# Altium integrated library Actel SX.IntLib: 224 symbols (part 2 of 17)
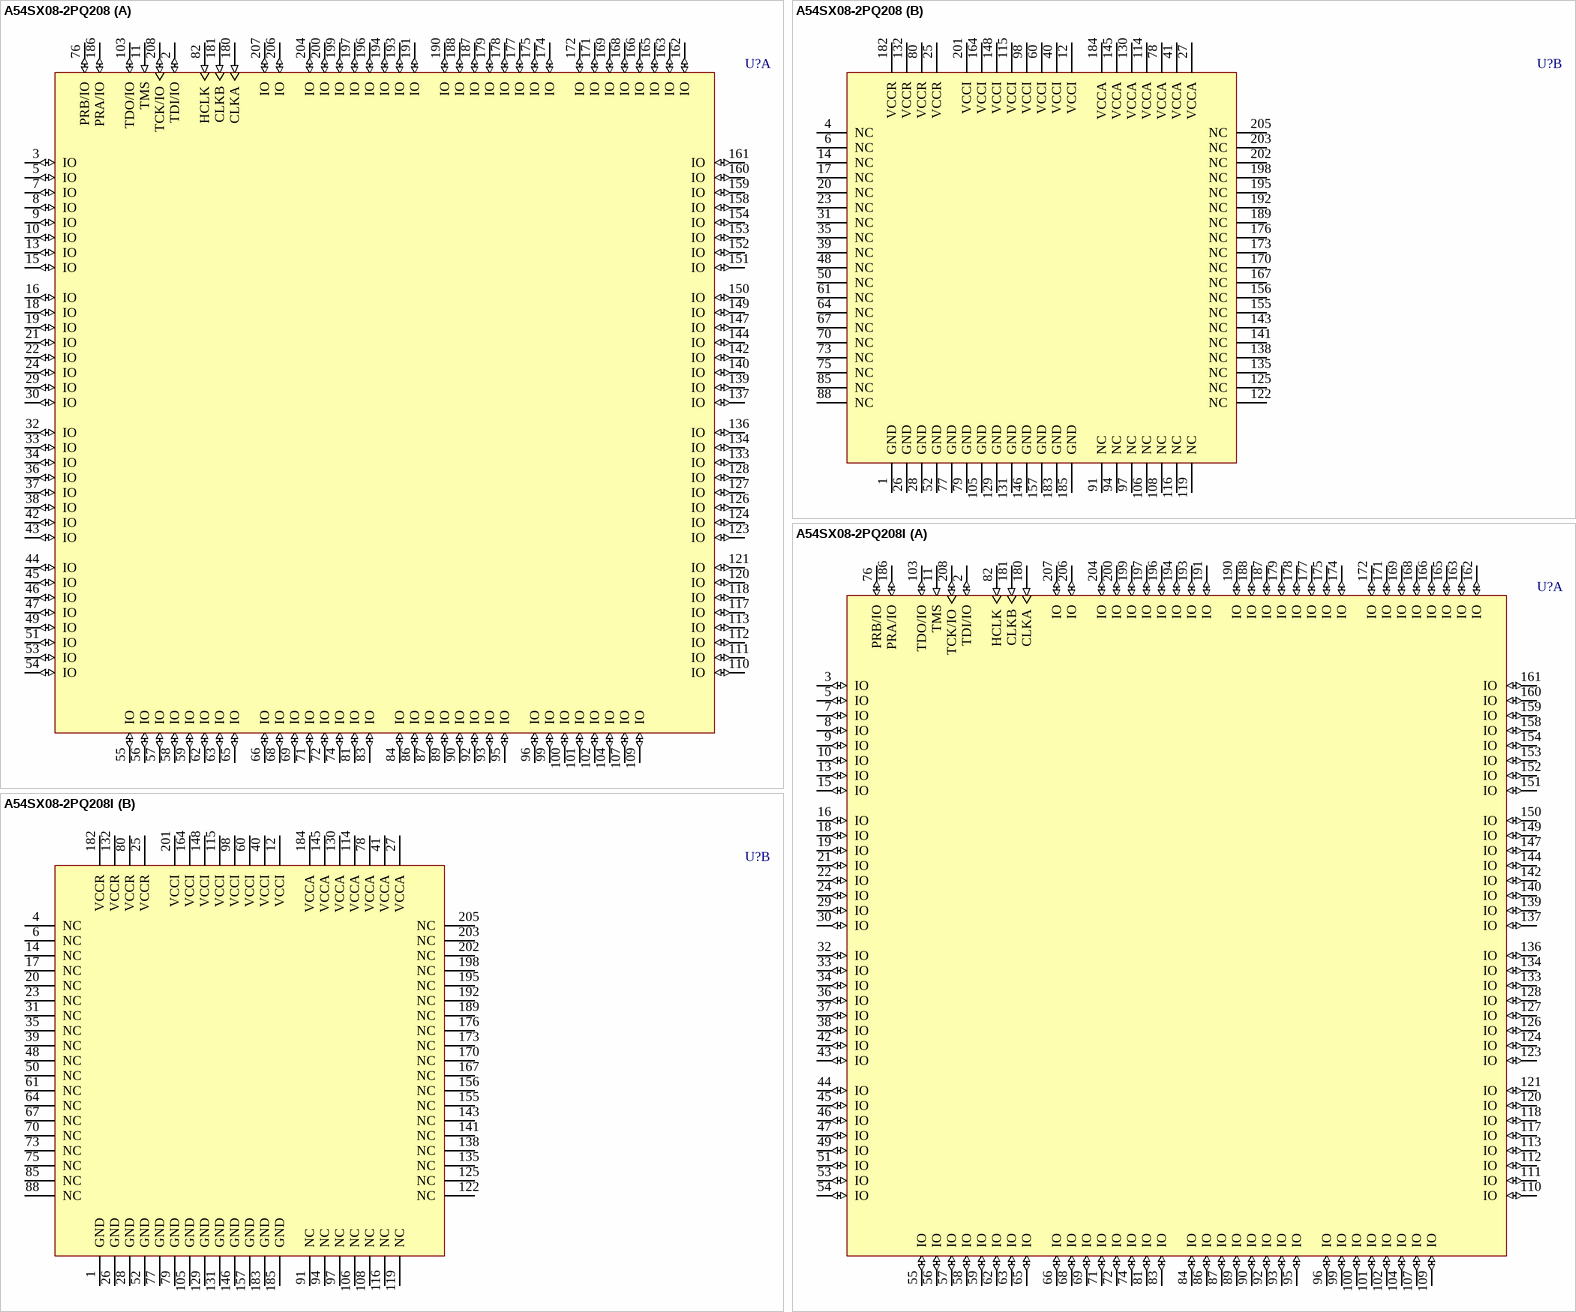
[diagram p168: symbols A54SX08-2PQ208 to A54SX08-2PQ208I]

## A54SX08-2PQ208I
designator U?
54SX08 FPGA, 130 User IOs, 208-Pin PQFP, Speed Grade 2, Industrial Grade; Note: Unused I/O Pins are automatically tristated by the Designer Series software.; Published: 21-May-2003; LatestRevisionDate: 13-Apr-2006; LatestRevisionNote: IPC-7351 Footprint Added.; DatasheetVersion: ver3.1, Jun-2003; PackageVersion: v9.2, Apr-2006; PackageReference: PQ208; Publisher: Altium Limited; PackageDescription: 208-Pin Plastic Quad Flat Pack (PQ208); Code_JEDEC: MS-029-FA-1; ComponentLink1Description: Manufacturer Link; ComponentLink1URL: http://www.actel.com/products/sxa/index.html; ComponentLink2Description: Datasheet; ComponentLink2URL: http://www.actel.com/documents/A54SXDS.pdf
footprint PQ208_N (Shrink QFP, 208-Leads, Body 28x28mm, Pitch 0.5mm, IPC Medium Density)
footprint PQ208_L (Shrink QFP, 208-Leads, Body 28x28mm, Pitch 0.5mm, IPC High Density)
footprint PQ208_M (Shrink QFP, 208-Leads, Body 28x28mm, Pitch 0.5mm, IPC Low Density)
3D model A54SX08-PQ208 (208-Pin Plastic Quad Flat Pack (PQ208))
part A pins: 2 TDI/IO (io), 3 IO (io), 5 IO (io), 7 IO (io), 8 IO (io), 9 IO (io), 10 IO (io), 11 TMS (in), 13 IO (io), 15 IO (io), 16 IO (io), 18 IO (io), 19 IO (io), 21 IO (io), 22 IO (io), 24 IO (io), 29 IO (io), 30 IO (io), 32 IO (io), 33 IO (io), 34 IO (io), 36 IO (io), 37 IO (io), 38 IO (io), 42 IO (io), 43 IO (io), 44 IO (io), 45 IO (io), 46 IO (io), 47 IO (io), 49 IO (io), 51 IO (io), 53 IO (io), 54 IO (io), 55 IO (io), 56 IO (io), 57 IO (io), 58 IO (io), 59 IO (io), 62 IO (io), 63 IO (io), 65 IO (io), 66 IO (io), 68 IO (io), 69 IO (io), 71 IO (io), 72 IO (io), 74 IO (io), 76 PRB/IO (io), 81 IO (io), 82 HCLK (in), 83 IO (io), 84 IO (io), 86 IO (io), 87 IO (io), 89 IO (io), 90 IO (io), 92 IO (io), 93 IO (io), 95 IO (io), 96 IO (io), 99 IO (io), 100 IO (io), 101 IO (io), 102 IO (io), 103 TDO/IO (io), 104 IO (io), 107 IO (io), 109 IO (io), 110 IO (io), 111 IO (io), 112 IO (io), 113 IO (io), 117 IO (io), 118 IO (io), 120 IO (io), 121 IO (io), 123 IO (io), 124 IO (io), 126 IO (io), 127 IO (io), 128 IO (io), 133 IO (io), 134 IO (io), 136 IO (io), 137 IO (io), 139 IO (io), 140 IO (io), 142 IO (io), 144 IO (io), 147 IO (io), 149 IO (io), 150 IO (io), 151 IO (io), 152 IO (io), 153 IO (io), 154 IO (io), 158 IO (io), 159 IO (io), 160 IO (io), 161 IO (io), 162 IO (io), 163 IO (io), 165 IO (io), 166 IO (io), 168 IO (io), 169 IO (io), 171 IO (io), 172 IO (io), 174 IO (io), 175 IO (io), 177 IO (io), 178 IO (io), 179 IO (io), 180 CLKA (in), 181 CLKB (in), 186 PRA/IO (io), 187 IO (io), 188 IO (io), 190 IO (io), 191 IO (io), 193 IO (io), 194 IO (io), 196 IO (io), 197 IO (io), 199 IO (io), 200 IO (io), 204 IO (io), 206 IO (io), 207 IO (io), 208 TCK/IO (io)
part B pins: 1 GND (power), 4 NC, 6 NC, 12 VCCI (power), 14 NC, 17 NC, 20 NC, 23 NC, 25 VCCR (power), 26 GND (power), 27 VCCA (power), 28 GND (power), 31 NC, 35 NC, 39 NC, 40 VCCI (power), 41 VCCA (power), 48 NC, 50 NC, 52 GND (power), 60 VCCI (power), 61 NC, 64 NC, 67 NC, 70 NC, 73 NC, 75 NC, 77 GND (power), 78 VCCA (power), 79 GND (power), 80 VCCR (power), 85 NC, 88 NC, 91 NC, 94 NC, 97 NC, 98 VCCI (power), 105 GND (power), 106 NC, 108 NC, 114 VCCA (power), 115 VCCI (power), 116 NC, 119 NC, 122 NC, 125 NC, 129 GND (power), 130 VCCA (power), 131 GND (power), 132 VCCR (power), 135 NC, 138 NC, 141 NC, 143 NC, 145 VCCA (power), 146 GND (power), 148 VCCI (power), 155 NC, 156 NC, 157 GND (power), 164 VCCI (power), 167 NC, 170 NC, 173 NC, 176 NC, 182 VCCR (power), 183 GND (power), 184 VCCA (power), 185 GND (power), 189 NC, 192 NC, 195 NC, 198 NC, 201 VCCI (power), 202 NC, 203 NC, 205 NC

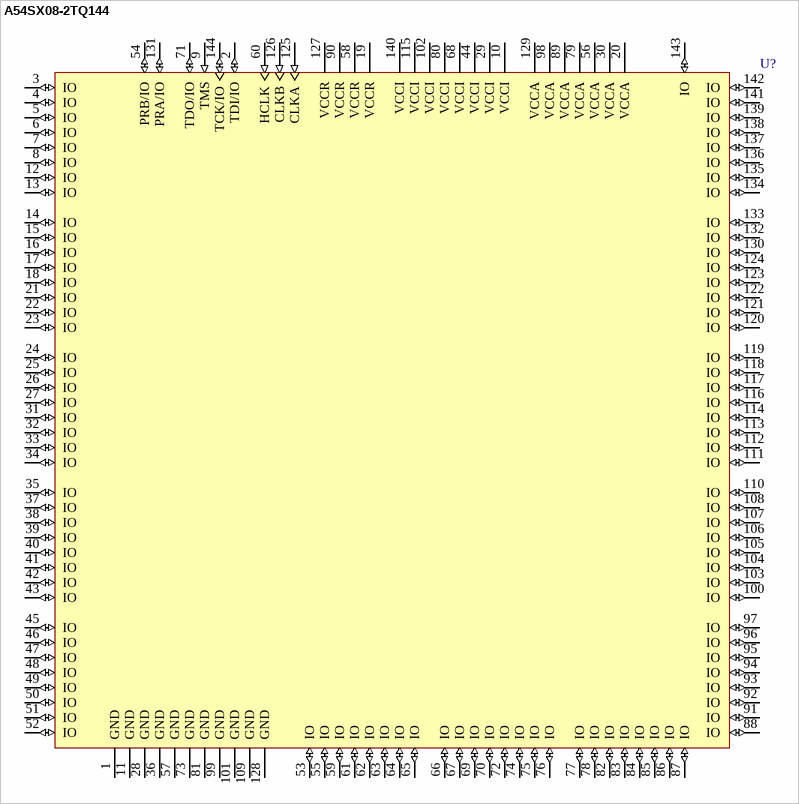
[diagram p8: symbol A54SX08-2TQ144]

## A54SX08-2TQ144
designator U?
54SX08 FPGA, 113 User IOs, 144-Pin TQFP, Speed Grade 2, Commercial Grade; Note: Unused I/O Pins are automatically tristated by the Designer Series software.; Published: 21-May-2003; LatestRevisionDate: 13-Apr-2006; LatestRevisionNote: IPC-7351 Footprint Added.; DatasheetVersion: ver3.1, Jun-2003; PackageVersion: v9.2, Apr-2006; PackageReference: TQ144; Publisher: Altium Limited; PackageDescription: 144-Pin Plastic Quad Flat Pack (TQ144); Code_JEDEC: MS-026-BFB; ComponentLink1Description: Manufacturer Link; ComponentLink1URL: http://www.actel.com/products/sxa/index.html; ComponentLink2Description: Datasheet; ComponentLink2URL: http://www.actel.com/documents/A54SXDS.pdf
footprint TQ144_N (Thin QFP, 144-Leads, Body 20x20mm, Pitch 0.5mm, IPC Medium Density)
footprint TQ144_L (Thin QFP, 144-Leads, Body 20x20mm, Pitch 0.5mm, IPC High Density)
footprint TQ144_M (Thin QFP, 144-Leads, Body 20x20mm, Pitch 0.5mm, IPC Low Density)
3D model A54SX08-TQ144 (144-Pin Plastic Quad Flat Pack (TQ144))
pins: 1 GND (power), 2 TDI/IO (io), 3 IO (io), 4 IO (io), 5 IO (io), 6 IO (io), 7 IO (io), 8 IO (io), 9 TMS (in), 10 VCCI (power), 11 GND (power), 12 IO (io), 13 IO (io), 14 IO (io), 15 IO (io), 16 IO (io), 17 IO (io), 18 IO (io), 19 VCCR (power), 20 VCCA (power), 21 IO (io), 22 IO (io), 23 IO (io), 24 IO (io), 25 IO (io), 26 IO (io), 27 IO (io), 28 GND (power), 29 VCCI (power), 30 VCCA (power), 31 IO (io), 32 IO (io), 33 IO (io), 34 IO (io), 35 IO (io), 36 GND (power), 37 IO (io), 38 IO (io), 39 IO (io), 40 IO (io), 41 IO (io), 42 IO (io), 43 IO (io), 44 VCCI (power), 45 IO (io), 46 IO (io), 47 IO (io), 48 IO (io), 49 IO (io), 50 IO (io), 51 IO (io), 52 IO (io), 53 IO (io), 54 PRB/IO (io), 55 IO (io), 56 VCCA (power), 57 GND (power), 58 VCCR (power), 59 IO (io), 60 HCLK (in), 61 IO (io), 62 IO (io), 63 IO (io), 64 IO (io), 65 IO (io), 66 IO (io), 67 IO (io), 68 VCCI (power), 69 IO (io), 70 IO (io), 71 TDO/IO (io), 72 IO (io), 73 GND (power), 74 IO (io), 75 IO (io), 76 IO (io), 77 IO (io), 78 IO (io), 79 VCCA (power), 80 VCCI (power), 81 GND (power), 82 IO (io), 83 IO (io), 84 IO (io), 85 IO (io), 86 IO (io), 87 IO (io), 88 IO (io), 89 VCCA (power), 90 VCCR (power), 91 IO (io), 92 IO (io), 93 IO (io), 94 IO (io), 95 IO (io), 96 IO (io), 97 IO (io), 98 VCCA (power), 99 GND (power), 100 IO (io), 101 GND (power), 102 VCCI (power), 103 IO (io), 104 IO (io), 105 IO (io), 106 IO (io), 107 IO (io), 108 IO (io), 109 GND (power), 110 IO (io), 111 IO (io), 112 IO (io), 113 IO (io), 114 IO (io), 115 VCCI (power), 116 IO (io), 117 IO (io), 118 IO (io), 119 IO (io), 120 IO (io), 121 IO (io), 122 IO (io), 123 IO (io), 124 IO (io), 125 CLKA (in), 126 CLKB (in), 127 VCCR (power), 128 GND (power), 129 VCCA (power), 130 IO (io), 131 PRA/IO (io), 132 IO (io), 133 IO (io), 134 IO (io), 135 IO (io), 136 IO (io), 137 IO (io), 138 IO (io), 139 IO (io), 140 VCCI (power), 141 IO (io), 142 IO (io), 143 IO (io), 144 TCK/IO (io)

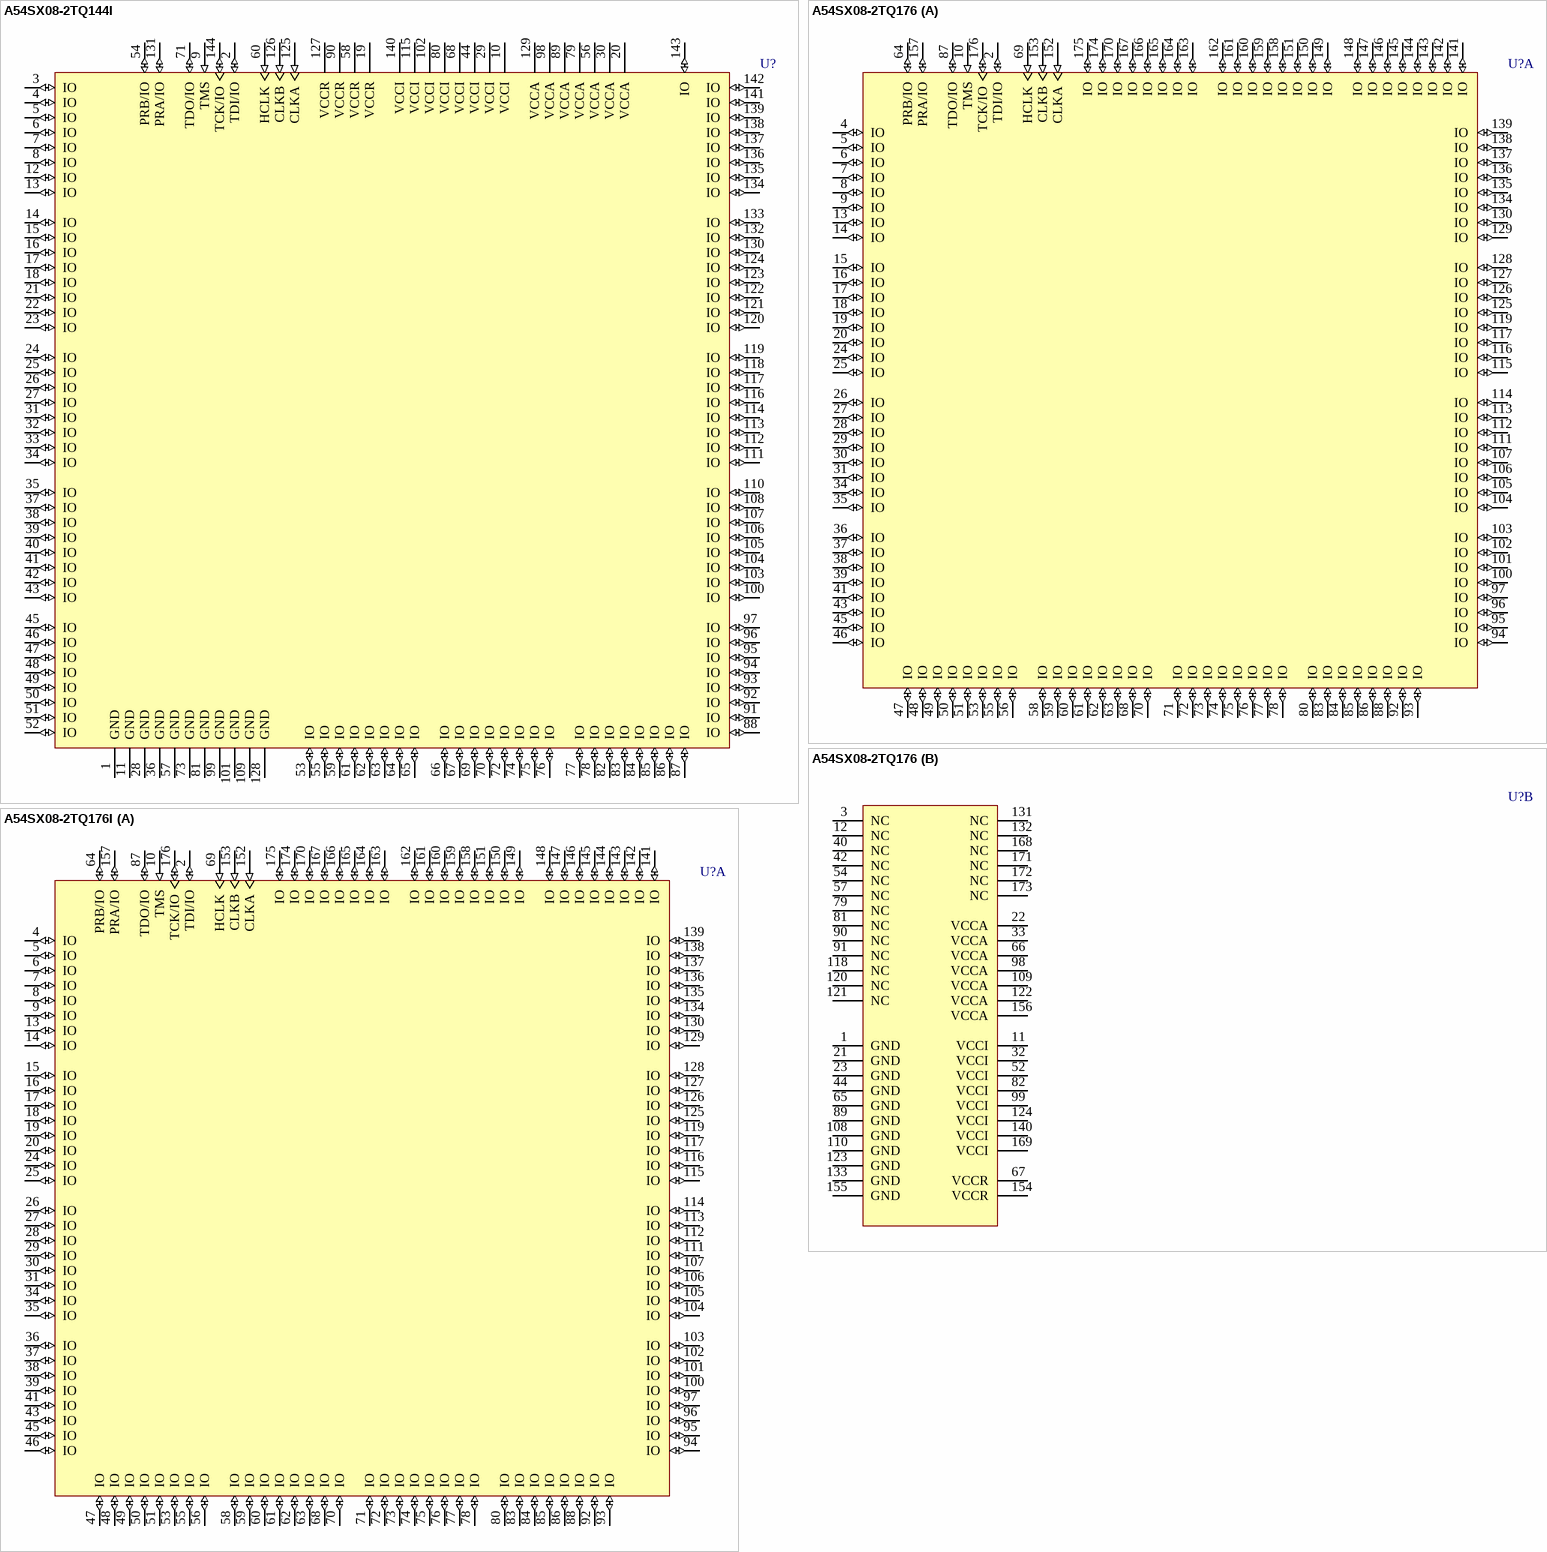
[diagram p9: symbols A54SX08-2TQ144I to A54SX08-2TQ176I]

## A54SX08-2TQ144I
designator U?
54SX08 FPGA, 113 User IOs, 144-Pin TQFP, Speed Grade 2, Industrial Grade; Note: Unused I/O Pins are automatically tristated by the Designer Series software.; Published: 21-May-2003; LatestRevisionDate: 13-Apr-2006; LatestRevisionNote: IPC-7351 Footprint Added.; DatasheetVersion: ver3.1, Jun-2003; PackageVersion: v9.2, Apr-2006; PackageReference: TQ144; Publisher: Altium Limited; PackageDescription: 144-Pin Plastic Quad Flat Pack (TQ144); Code_JEDEC: MS-026-BFB; ComponentLink1Description: Manufacturer Link; ComponentLink1URL: http://www.actel.com/products/sxa/index.html; ComponentLink2Description: Datasheet; ComponentLink2URL: http://www.actel.com/documents/A54SXDS.pdf
footprint TQ144_N (Thin QFP, 144-Leads, Body 20x20mm, Pitch 0.5mm, IPC Medium Density)
footprint TQ144_L (Thin QFP, 144-Leads, Body 20x20mm, Pitch 0.5mm, IPC High Density)
footprint TQ144_M (Thin QFP, 144-Leads, Body 20x20mm, Pitch 0.5mm, IPC Low Density)
3D model A54SX08-TQ144 (144-Pin Plastic Quad Flat Pack (TQ144))
pins: 1 GND (power), 2 TDI/IO (io), 3 IO (io), 4 IO (io), 5 IO (io), 6 IO (io), 7 IO (io), 8 IO (io), 9 TMS (in), 10 VCCI (power), 11 GND (power), 12 IO (io), 13 IO (io), 14 IO (io), 15 IO (io), 16 IO (io), 17 IO (io), 18 IO (io), 19 VCCR (power), 20 VCCA (power), 21 IO (io), 22 IO (io), 23 IO (io), 24 IO (io), 25 IO (io), 26 IO (io), 27 IO (io), 28 GND (power), 29 VCCI (power), 30 VCCA (power), 31 IO (io), 32 IO (io), 33 IO (io), 34 IO (io), 35 IO (io), 36 GND (power), 37 IO (io), 38 IO (io), 39 IO (io), 40 IO (io), 41 IO (io), 42 IO (io), 43 IO (io), 44 VCCI (power), 45 IO (io), 46 IO (io), 47 IO (io), 48 IO (io), 49 IO (io), 50 IO (io), 51 IO (io), 52 IO (io), 53 IO (io), 54 PRB/IO (io), 55 IO (io), 56 VCCA (power), 57 GND (power), 58 VCCR (power), 59 IO (io), 60 HCLK (in), 61 IO (io), 62 IO (io), 63 IO (io), 64 IO (io), 65 IO (io), 66 IO (io), 67 IO (io), 68 VCCI (power), 69 IO (io), 70 IO (io), 71 TDO/IO (io), 72 IO (io), 73 GND (power), 74 IO (io), 75 IO (io), 76 IO (io), 77 IO (io), 78 IO (io), 79 VCCA (power), 80 VCCI (power), 81 GND (power), 82 IO (io), 83 IO (io), 84 IO (io), 85 IO (io), 86 IO (io), 87 IO (io), 88 IO (io), 89 VCCA (power), 90 VCCR (power), 91 IO (io), 92 IO (io), 93 IO (io), 94 IO (io), 95 IO (io), 96 IO (io), 97 IO (io), 98 VCCA (power), 99 GND (power), 100 IO (io), 101 GND (power), 102 VCCI (power), 103 IO (io), 104 IO (io), 105 IO (io), 106 IO (io), 107 IO (io), 108 IO (io), 109 GND (power), 110 IO (io), 111 IO (io), 112 IO (io), 113 IO (io), 114 IO (io), 115 VCCI (power), 116 IO (io), 117 IO (io), 118 IO (io), 119 IO (io), 120 IO (io), 121 IO (io), 122 IO (io), 123 IO (io), 124 IO (io), 125 CLKA (in), 126 CLKB (in), 127 VCCR (power), 128 GND (power), 129 VCCA (power), 130 IO (io), 131 PRA/IO (io), 132 IO (io), 133 IO (io), 134 IO (io), 135 IO (io), 136 IO (io), 137 IO (io), 138 IO (io), 139 IO (io), 140 VCCI (power), 141 IO (io), 142 IO (io), 143 IO (io), 144 TCK/IO (io)

## A54SX08-2TQ176
designator U?
54SX08 FPGA, 128 User IOs, 176-Pin TQFP, Speed Grade 2, Commercial Grade; Note: Unused I/O Pins are automatically tristated by the Designer Series software.; Published: 21-May-2003; LatestRevisionDate: 13-Apr-2006; LatestRevisionNote: IPC-7351 Footprint Added.; DatasheetVersion: ver3.1, Jun-2003; PackageVersion: v9.2, Apr-2006; PackageReference: TQ176; Publisher: Altium Limited; PackageDescription: 176-Pin Plastic Quad Flat Pack (TQ176); Code_JEDEC: MS-026-BCA; ComponentLink1Description: Manufacturer Link; ComponentLink1URL: http://www.actel.com/products/sxa/index.html; ComponentLink2Description: Datasheet; ComponentLink2URL: http://www.actel.com/documents/A54SXDS.pdf
footprint TQ176_N (Thin QFP, 176-Leads, Body 24x24mm, Pitch 0.5mm, IPC Medium Density)
footprint TQ176_L (Thin QFP, 176-Leads, Body 24x24mm, Pitch 0.5mm, IPC High Density)
footprint TQ176_M (Thin QFP, 176-Leads, Body 24x24mm, Pitch 0.5mm, IPC Low Density)
3D model A54SX08-TQ176 (176-Pin Plastic Quad Flat Pack (TQ176))
part A pins: 2 TDI/IO (io), 4 IO (io), 5 IO (io), 6 IO (io), 7 IO (io), 8 IO (io), 9 IO (io), 10 TMS (in), 13 IO (io), 14 IO (io), 15 IO (io), 16 IO (io), 17 IO (io), 18 IO (io), 19 IO (io), 20 IO (io), 24 IO (io), 25 IO (io), 26 IO (io), 27 IO (io), 28 IO (io), 29 IO (io), 30 IO (io), 31 IO (io), 34 IO (io), 35 IO (io), 36 IO (io), 37 IO (io), 38 IO (io), 39 IO (io), 41 IO (io), 43 IO (io), 45 IO (io), 46 IO (io), 47 IO (io), 48 IO (io), 49 IO (io), 50 IO (io), 51 IO (io), 53 IO (io), 55 IO (io), 56 IO (io), 58 IO (io), 59 IO (io), 60 IO (io), 61 IO (io), 62 IO (io), 63 IO (io), 64 PRB/IO (io), 68 IO (io), 69 HCLK (in), 70 IO (io), 71 IO (io), 72 IO (io), 73 IO (io), 74 IO (io), 75 IO (io), 76 IO (io), 77 IO (io), 78 IO (io), 80 IO (io), 83 IO (io), 84 IO (io), 85 IO (io), 86 IO (io), 87 TDO/IO (io), 88 IO (io), 92 IO (io), 93 IO (io), 94 IO (io), 95 IO (io), 96 IO (io), 97 IO (io), 100 IO (io), 101 IO (io), 102 IO (io), 103 IO (io), 104 IO (io), 105 IO (io), 106 IO (io), 107 IO (io), 111 IO (io), 112 IO (io), 113 IO (io), 114 IO (io), 115 IO (io), 116 IO (io), 117 IO (io), 119 IO (io), 125 IO (io), 126 IO (io), 127 IO (io), 128 IO (io), 129 IO (io), 130 IO (io), 134 IO (io), 135 IO (io), 136 IO (io), 137 IO (io), 138 IO (io), 139 IO (io), 141 IO (io), 142 IO (io), 143 IO (io), 144 IO (io), 145 IO (io), 146 IO (io), 147 IO (io), 148 IO (io), 149 IO (io), 150 IO (io), 151 IO (io), 152 CLKA (in), 153 CLKB (in), 157 PRA/IO (io), 158 IO (io), 159 IO (io), 160 IO (io), 161 IO (io), 162 IO (io), 163 IO (io), 164 IO (io), 165 IO (io), 166 IO (io), 167 IO (io), 170 IO (io), 174 IO (io), 175 IO (io), 176 TCK/IO (io)
part B pins: 1 GND (power), 3 NC, 11 VCCI (power), 12 NC, 21 GND (power), 22 VCCA (power), 23 GND (power), 32 VCCI (power), 33 VCCA (power), 40 NC, 42 NC, 44 GND (power), 52 VCCI (power), 54 NC, 57 NC, 65 GND (power), 66 VCCA (power), 67 VCCR (power), 79 NC, 81 NC, 82 VCCI (power), 89 GND (power), 90 NC, 91 NC, 98 VCCA (power), 99 VCCI (power), 108 GND (power), 109 VCCA (power), 110 GND (power), 118 NC, 120 NC, 121 NC, 122 VCCA (power), 123 GND (power), 124 VCCI (power), 131 NC, 132 NC, 133 GND (power), 140 VCCI (power), 154 VCCR (power), 155 GND (power), 156 VCCA (power), 168 NC, 169 VCCI (power), 171 NC, 172 NC, 173 NC

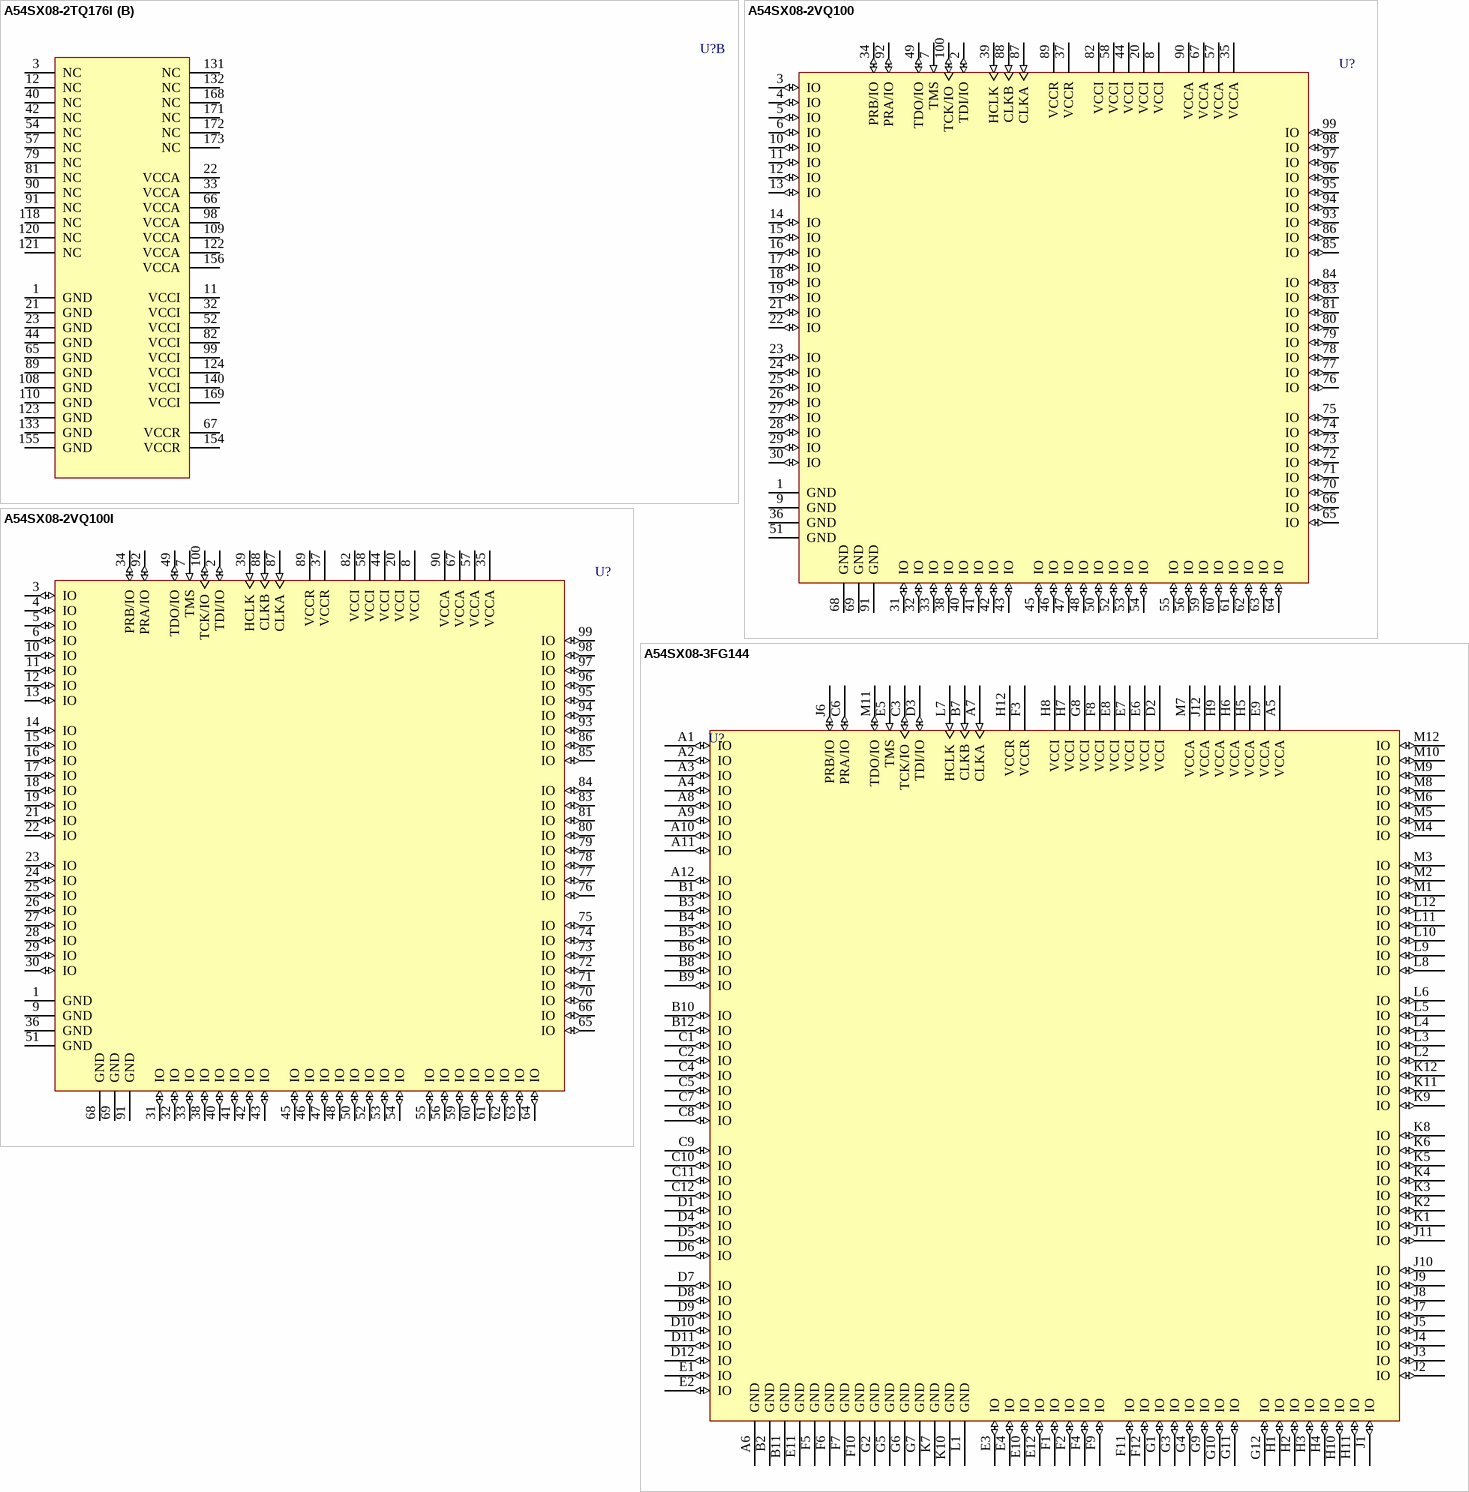
[diagram p10: symbols A54SX08-2TQ176I to A54SX08-3FG144]

## A54SX08-2TQ176I
designator U?
54SX08 FPGA, 128 User IOs, 176-Pin TQFP, Speed Grade 2, Industrial Grade; Note: Unused I/O Pins are automatically tristated by the Designer Series software.; Published: 21-May-2003; LatestRevisionDate: 13-Apr-2006; LatestRevisionNote: IPC-7351 Footprint Added.; DatasheetVersion: ver3.1, Jun-2003; PackageVersion: v9.2, Apr-2006; PackageReference: TQ176; Publisher: Altium Limited; PackageDescription: 176-Pin Plastic Quad Flat Pack (TQ176); Code_JEDEC: MS-026-BCA; ComponentLink1Description: Manufacturer Link; ComponentLink1URL: http://www.actel.com/products/sxa/index.html; ComponentLink2Description: Datasheet; ComponentLink2URL: http://www.actel.com/documents/A54SXDS.pdf
footprint TQ176_N (Thin QFP, 176-Leads, Body 24x24mm, Pitch 0.5mm, IPC Medium Density)
footprint TQ176_L (Thin QFP, 176-Leads, Body 24x24mm, Pitch 0.5mm, IPC High Density)
footprint TQ176_M (Thin QFP, 176-Leads, Body 24x24mm, Pitch 0.5mm, IPC Low Density)
3D model A54SX08-TQ176 (176-Pin Plastic Quad Flat Pack (TQ176))
part A pins: 2 TDI/IO (io), 4 IO (io), 5 IO (io), 6 IO (io), 7 IO (io), 8 IO (io), 9 IO (io), 10 TMS (in), 13 IO (io), 14 IO (io), 15 IO (io), 16 IO (io), 17 IO (io), 18 IO (io), 19 IO (io), 20 IO (io), 24 IO (io), 25 IO (io), 26 IO (io), 27 IO (io), 28 IO (io), 29 IO (io), 30 IO (io), 31 IO (io), 34 IO (io), 35 IO (io), 36 IO (io), 37 IO (io), 38 IO (io), 39 IO (io), 41 IO (io), 43 IO (io), 45 IO (io), 46 IO (io), 47 IO (io), 48 IO (io), 49 IO (io), 50 IO (io), 51 IO (io), 53 IO (io), 55 IO (io), 56 IO (io), 58 IO (io), 59 IO (io), 60 IO (io), 61 IO (io), 62 IO (io), 63 IO (io), 64 PRB/IO (io), 68 IO (io), 69 HCLK (in), 70 IO (io), 71 IO (io), 72 IO (io), 73 IO (io), 74 IO (io), 75 IO (io), 76 IO (io), 77 IO (io), 78 IO (io), 80 IO (io), 83 IO (io), 84 IO (io), 85 IO (io), 86 IO (io), 87 TDO/IO (io), 88 IO (io), 92 IO (io), 93 IO (io), 94 IO (io), 95 IO (io), 96 IO (io), 97 IO (io), 100 IO (io), 101 IO (io), 102 IO (io), 103 IO (io), 104 IO (io), 105 IO (io), 106 IO (io), 107 IO (io), 111 IO (io), 112 IO (io), 113 IO (io), 114 IO (io), 115 IO (io), 116 IO (io), 117 IO (io), 119 IO (io), 125 IO (io), 126 IO (io), 127 IO (io), 128 IO (io), 129 IO (io), 130 IO (io), 134 IO (io), 135 IO (io), 136 IO (io), 137 IO (io), 138 IO (io), 139 IO (io), 141 IO (io), 142 IO (io), 143 IO (io), 144 IO (io), 145 IO (io), 146 IO (io), 147 IO (io), 148 IO (io), 149 IO (io), 150 IO (io), 151 IO (io), 152 CLKA (in), 153 CLKB (in), 157 PRA/IO (io), 158 IO (io), 159 IO (io), 160 IO (io), 161 IO (io), 162 IO (io), 163 IO (io), 164 IO (io), 165 IO (io), 166 IO (io), 167 IO (io), 170 IO (io), 174 IO (io), 175 IO (io), 176 TCK/IO (io)
part B pins: 1 GND (power), 3 NC, 11 VCCI (power), 12 NC, 21 GND (power), 22 VCCA (power), 23 GND (power), 32 VCCI (power), 33 VCCA (power), 40 NC, 42 NC, 44 GND (power), 52 VCCI (power), 54 NC, 57 NC, 65 GND (power), 66 VCCA (power), 67 VCCR (power), 79 NC, 81 NC, 82 VCCI (power), 89 GND (power), 90 NC, 91 NC, 98 VCCA (power), 99 VCCI (power), 108 GND (power), 109 VCCA (power), 110 GND (power), 118 NC, 120 NC, 121 NC, 122 VCCA (power), 123 GND (power), 124 VCCI (power), 131 NC, 132 NC, 133 GND (power), 140 VCCI (power), 154 VCCR (power), 155 GND (power), 156 VCCA (power), 168 NC, 169 VCCI (power), 171 NC, 172 NC, 173 NC

## A54SX08-2VQ100
designator U?
54SX08 FPGA, 81 User IOs, 100-Pin VQFP, Speed Grade 2, Commercial Grade; Note: Unused I/O Pins are automatically tristated by the Designer Series software.; Published: 21-May-2003; LatestRevisionDate: 13-Apr-2006; LatestRevisionNote: IPC-7351 Footprint Added.; DatasheetVersion: ver3.1, Jun-2003; PackageVersion: v9.2, Apr-2006; PackageReference: VQ100; Publisher: Altium Limited; PackageDescription: 100-Pin Plastic Quad Flat Pack (VQ100); Code_JEDEC: MS-036-AED; ComponentLink1Description: Manufacturer Link; ComponentLink1URL: http://www.actel.com/products/sxa/index.html; ComponentLink2Description: Datasheet; ComponentLink2URL: http://www.actel.com/documents/A54SXDS.pdf
footprint VQ100_N (Thin QFP, 100-Leads, Body 14x14mm, Pitch 0.5mm, IPC Medium Density)
footprint VQ100_L (Thin QFP, 100-Leads, Body 14x14mm, Pitch 0.5mm, IPC High Density)
footprint VQ100_M (Thin QFP, 100-Leads, Body 14x14mm, Pitch 0.5mm, IPC Low Density)
3D model A54SX08-VQ100 (100-Pin Plastic Quad Flat Pack (VQ100))
pins: 1 GND (power), 2 TDI/IO (io), 3 IO (io), 4 IO (io), 5 IO (io), 6 IO (io), 7 TMS (in), 8 VCCI (power), 9 GND (power), 10 IO (io), 11 IO (io), 12 IO (io), 13 IO (io), 14 IO (io), 15 IO (io), 16 IO (io), 17 IO (io), 18 IO (io), 19 IO (io), 20 VCCI (power), 21 IO (io), 22 IO (io), 23 IO (io), 24 IO (io), 25 IO (io), 26 IO (io), 27 IO (io), 28 IO (io), 29 IO (io), 30 IO (io), 31 IO (io), 32 IO (io), 33 IO (io), 34 PRB/IO (io), 35 VCCA (power), 36 GND (power), 37 VCCR (power), 38 IO (io), 39 HCLK (in), 40 IO (io), 41 IO (io), 42 IO (io), 43 IO (io), 44 VCCI (power), 45 IO (io), 46 IO (io), 47 IO (io), 48 IO (io), 49 TDO/IO (io), 50 IO (io), 51 GND (power), 52 IO (io), 53 IO (io), 54 IO (io), 55 IO (io), 56 IO (io), 57 VCCA (power), 58 VCCI (power), 59 IO (io), 60 IO (io), 61 IO (io), 62 IO (io), 63 IO (io), 64 IO (io), 65 IO (io), 66 IO (io), 67 VCCA (power), 68 GND (power), 69 GND (power), 70 IO (io), 71 IO (io), 72 IO (io), 73 IO (io), 74 IO (io), 75 IO (io), 76 IO (io), 77 IO (io), 78 IO (io), 79 IO (io), 80 IO (io), 81 IO (io), 82 VCCI (power), 83 IO (io), 84 IO (io), 85 IO (io), 86 IO (io), 87 CLKA (in), 88 CLKB (in), 89 VCCR (power), 90 VCCA (power), 91 GND (power), 92 PRA/IO (io), 93 IO (io), 94 IO (io), 95 IO (io), 96 IO (io), 97 IO (io), 98 IO (io), 99 IO (io), 100 TCK/IO (io)

## A54SX08-2VQ100I
designator U?
54SX08 FPGA, 81 User IOs, 100-Pin VQFP, Speed Grade 2, Industrial Grade; Note: Unused I/O Pins are automatically tristated by the Designer Series software.; Published: 21-May-2003; LatestRevisionDate: 13-Apr-2006; LatestRevisionNote: IPC-7351 Footprint Added.; DatasheetVersion: ver3.1, Jun-2003; PackageVersion: v9.2, Apr-2006; PackageReference: VQ100; Publisher: Altium Limited; PackageDescription: 100-Pin Plastic Quad Flat Pack (VQ100); Code_JEDEC: MS-036-AED; ComponentLink1Description: Manufacturer Link; ComponentLink1URL: http://www.actel.com/products/sxa/index.html; ComponentLink2Description: Datasheet; ComponentLink2URL: http://www.actel.com/documents/A54SXDS.pdf
footprint VQ100_N (Thin QFP, 100-Leads, Body 14x14mm, Pitch 0.5mm, IPC Medium Density)
footprint VQ100_L (Thin QFP, 100-Leads, Body 14x14mm, Pitch 0.5mm, IPC High Density)
footprint VQ100_M (Thin QFP, 100-Leads, Body 14x14mm, Pitch 0.5mm, IPC Low Density)
3D model A54SX08-VQ100 (100-Pin Plastic Quad Flat Pack (VQ100))
pins: 1 GND (power), 2 TDI/IO (io), 3 IO (io), 4 IO (io), 5 IO (io), 6 IO (io), 7 TMS (in), 8 VCCI (power), 9 GND (power), 10 IO (io), 11 IO (io), 12 IO (io), 13 IO (io), 14 IO (io), 15 IO (io), 16 IO (io), 17 IO (io), 18 IO (io), 19 IO (io), 20 VCCI (power), 21 IO (io), 22 IO (io), 23 IO (io), 24 IO (io), 25 IO (io), 26 IO (io), 27 IO (io), 28 IO (io), 29 IO (io), 30 IO (io), 31 IO (io), 32 IO (io), 33 IO (io), 34 PRB/IO (io), 35 VCCA (power), 36 GND (power), 37 VCCR (power), 38 IO (io), 39 HCLK (in), 40 IO (io), 41 IO (io), 42 IO (io), 43 IO (io), 44 VCCI (power), 45 IO (io), 46 IO (io), 47 IO (io), 48 IO (io), 49 TDO/IO (io), 50 IO (io), 51 GND (power), 52 IO (io), 53 IO (io), 54 IO (io), 55 IO (io), 56 IO (io), 57 VCCA (power), 58 VCCI (power), 59 IO (io), 60 IO (io), 61 IO (io), 62 IO (io), 63 IO (io), 64 IO (io), 65 IO (io), 66 IO (io), 67 VCCA (power), 68 GND (power), 69 GND (power), 70 IO (io), 71 IO (io), 72 IO (io), 73 IO (io), 74 IO (io), 75 IO (io), 76 IO (io), 77 IO (io), 78 IO (io), 79 IO (io), 80 IO (io), 81 IO (io), 82 VCCI (power), 83 IO (io), 84 IO (io), 85 IO (io), 86 IO (io), 87 CLKA (in), 88 CLKB (in), 89 VCCR (power), 90 VCCA (power), 91 GND (power), 92 PRA/IO (io), 93 IO (io), 94 IO (io), 95 IO (io), 96 IO (io), 97 IO (io), 98 IO (io), 99 IO (io), 100 TCK/IO (io)

## A54SX08-3FG144
designator U?
54SX08 FPGA, 111 User IOs, 144-Pin FBGA, Speed Grade 3, Commercial Grade; Note: Unused I/O Pins are automatically tristated by the Designer Series software.; Published: 21-May-2003; LatestRevisionDate: 13-Apr-2006; LatestRevisionNote: IPC-7351 Footprint Added.; DatasheetVersion: ver3.1, Jun-2003; PackageVersion: v9.2, Apr-2006; PackageReference: FG144; Publisher: Altium Limited; PackageDescription: 144-Ball Fine Pitch Plastic Ball Grid Array (FG144); Code_JEDEC: MS-034-AAP-1; ComponentLink1Description: Manufacturer Link; ComponentLink1URL: http://www.actel.com/products/sxa/index.html; ComponentLink2Description: Datasheet; ComponentLink2URL: http://www.actel.com/documents/A54SXDS.pdf
footprint FG144 (BGA, 144-Leads, Body 13x13mm, Pitch 1mm)
3D model A54SX08-FG144 (144-Ball Fine Pitch Plastic Ball Grid Array (FG144))
pins: A1 IO (io), A2 IO (io), A3 IO (io), A4 IO (io), A5 VCCA (power), A6 GND (power), A7 CLKA (in), A8 IO (io), A9 IO (io), A10 IO (io), A11 IO (io), A12 IO (io), B1 IO (io), B2 GND (power), B3 IO (io), B4 IO (io), B5 IO (io), B6 IO (io), B7 CLKB (in), B8 IO (io), B9 IO (io), B10 IO (io), B11 GND (power), B12 IO (io), C1 IO (io), C2 IO (io), C3 TCK/IO (io), C4 IO (io), C5 IO (io), C6 PRA/IO (io), C7 IO (io), C8 IO (io), C9 IO (io), C10 IO (io), C11 IO (io), C12 IO (io), D1 IO (io), D2 VCCI (power), D3 TDI/IO (io), D4 IO (io), D5 IO (io), D6 IO (io), D7 IO (io), D8 IO (io), D9 IO (io), D10 IO (io), D11 IO (io), D12 IO (io), E1 IO (io), E2 IO (io), E3 IO (io), E4 IO (io), E5 TMS (in), E6 VCCI (power), E7 VCCI (power), E8 VCCI (power), E9 VCCA (power), E10 IO (io), E11 GND (power), E12 IO (io), F1 IO (io), F2 IO (io), F3 VCCR (power), F4 IO (io), F5 GND (power), F6 GND (power), F7 GND (power), F8 VCCI (power), F9 IO (io), F10 GND (power), F11 IO (io), F12 IO (io), G1 IO (io), G2 GND (power), G3 IO (io), G4 IO (io), G5 GND (power), G6 GND (power), G7 GND (power), G8 VCCI (power), G9 IO (io), G10 IO (io), G11 IO (io), G12 IO (io), H1 IO (io), H2 IO (io), H3 IO (io), H4 IO (io), H5 VCCA (power), H6 VCCA (power), H7 VCCI (power), H8 VCCI (power), H9 VCCA (power), H10 IO (io), H11 IO (io), H12 VCCR (power), J1 IO (io), J2 IO (io), J3 IO (io), J4 IO (io), J5 IO (io), J6 PRB/IO (io), J7 IO (io), J8 IO (io), J9 IO (io), J10 IO (io), J11 IO (io), J12 VCCA (power), K1 IO (io), K2 IO (io), K3 IO (io), K4 IO (io), K5 IO (io), K6 IO (io), K7 GND (power), K8 IO (io), K9 IO (io), K10 GND (power), K11 IO (io), K12 IO (io), L1 GND (power), L2 IO (io), L3 IO (io), L4 IO (io), L5 IO (io), L6 IO (io), L7 HCLK (in), L8 IO (io), L9 IO (io), L10 IO (io), L11 IO (io), L12 IO (io), M1 IO (io), M2 IO (io), M3 IO (io), M4 IO (io), M5 IO (io), M6 IO (io), M7 VCCA (power), M8 IO (io), M9 IO (io), M10 IO (io), M11 TDO/IO (io), M12 IO (io)

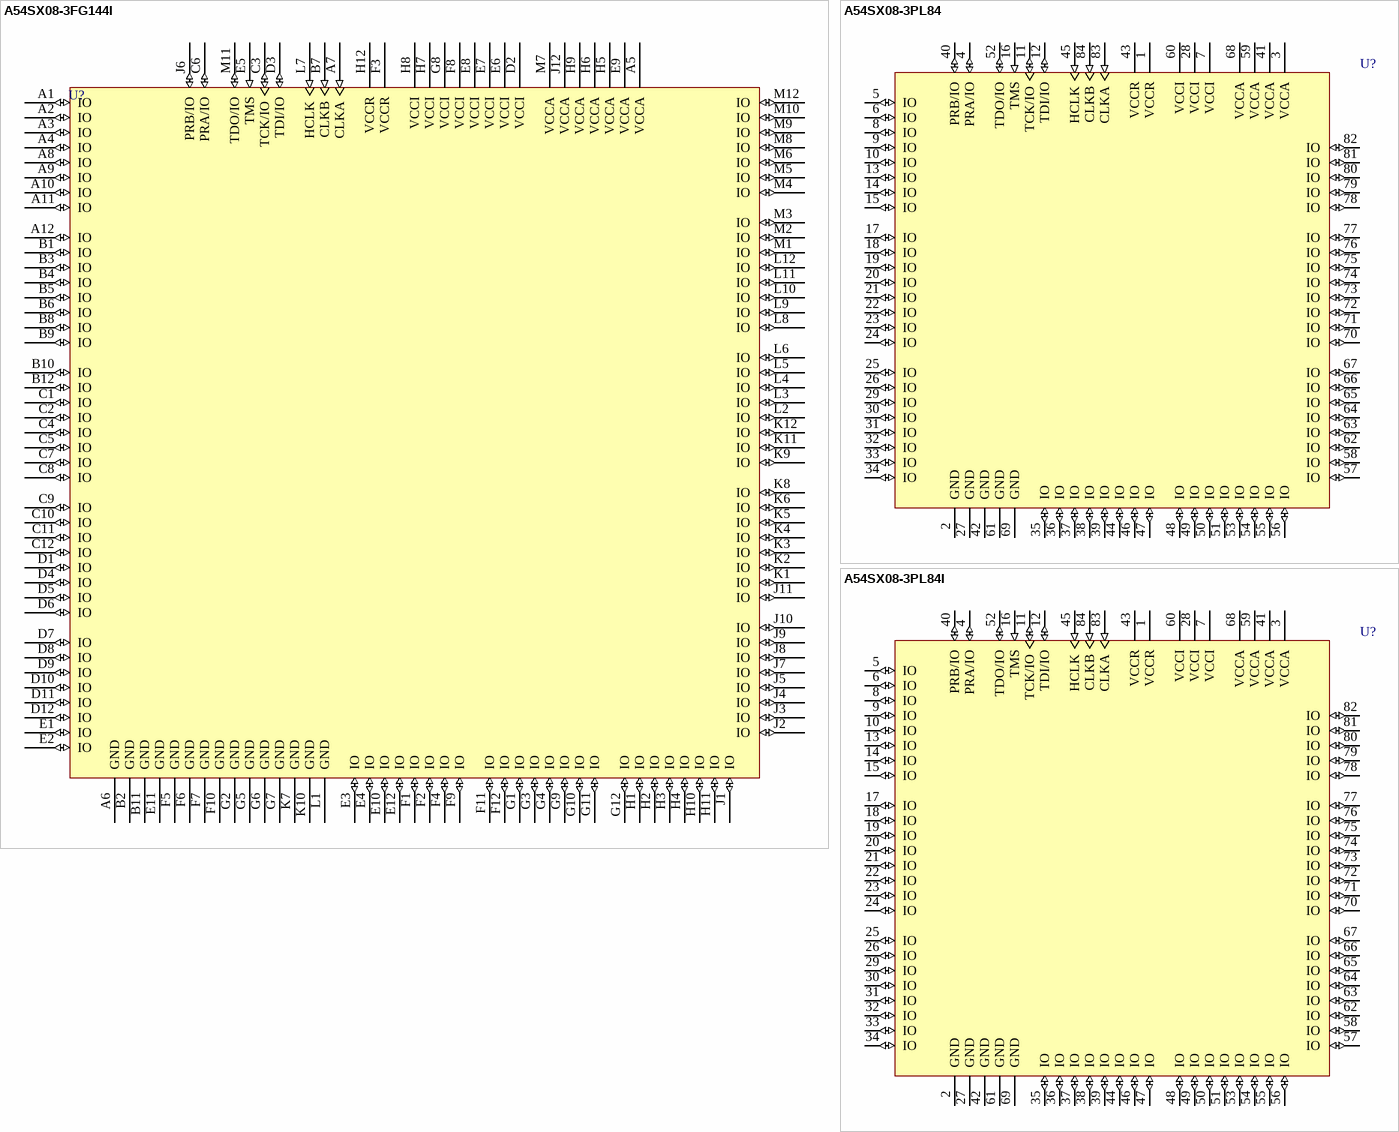
[diagram p11: symbols A54SX08-3FG144I to A54SX08-3PL84I]

## A54SX08-3FG144I
designator U?
54SX08 FPGA, 111 User IOs, 144-Pin FBGA, Speed Grade 3, Industrial Grade; Note: Unused I/O Pins are automatically tristated by the Designer Series software.; Published: 21-May-2003; LatestRevisionDate: 13-Apr-2006; LatestRevisionNote: IPC-7351 Footprint Added.; DatasheetVersion: ver3.1, Jun-2003; PackageVersion: v9.2, Apr-2006; PackageReference: FG144; Publisher: Altium Limited; PackageDescription: 144-Ball Fine Pitch Plastic Ball Grid Array (FG144); Code_JEDEC: MS-034-AAP-1; ComponentLink1Description: Manufacturer Link; ComponentLink1URL: http://www.actel.com/products/sxa/index.html; ComponentLink2Description: Datasheet; ComponentLink2URL: http://www.actel.com/documents/A54SXDS.pdf
footprint FG144 (BGA, 144-Leads, Body 13x13mm, Pitch 1mm)
3D model A54SX08-FG144 (144-Ball Fine Pitch Plastic Ball Grid Array (FG144))
pins: A1 IO (io), A2 IO (io), A3 IO (io), A4 IO (io), A5 VCCA (power), A6 GND (power), A7 CLKA (in), A8 IO (io), A9 IO (io), A10 IO (io), A11 IO (io), A12 IO (io), B1 IO (io), B2 GND (power), B3 IO (io), B4 IO (io), B5 IO (io), B6 IO (io), B7 CLKB (in), B8 IO (io), B9 IO (io), B10 IO (io), B11 GND (power), B12 IO (io), C1 IO (io), C2 IO (io), C3 TCK/IO (io), C4 IO (io), C5 IO (io), C6 PRA/IO (io), C7 IO (io), C8 IO (io), C9 IO (io), C10 IO (io), C11 IO (io), C12 IO (io), D1 IO (io), D2 VCCI (power), D3 TDI/IO (io), D4 IO (io), D5 IO (io), D6 IO (io), D7 IO (io), D8 IO (io), D9 IO (io), D10 IO (io), D11 IO (io), D12 IO (io), E1 IO (io), E2 IO (io), E3 IO (io), E4 IO (io), E5 TMS (in), E6 VCCI (power), E7 VCCI (power), E8 VCCI (power), E9 VCCA (power), E10 IO (io), E11 GND (power), E12 IO (io), F1 IO (io), F2 IO (io), F3 VCCR (power), F4 IO (io), F5 GND (power), F6 GND (power), F7 GND (power), F8 VCCI (power), F9 IO (io), F10 GND (power), F11 IO (io), F12 IO (io), G1 IO (io), G2 GND (power), G3 IO (io), G4 IO (io), G5 GND (power), G6 GND (power), G7 GND (power), G8 VCCI (power), G9 IO (io), G10 IO (io), G11 IO (io), G12 IO (io), H1 IO (io), H2 IO (io), H3 IO (io), H4 IO (io), H5 VCCA (power), H6 VCCA (power), H7 VCCI (power), H8 VCCI (power), H9 VCCA (power), H10 IO (io), H11 IO (io), H12 VCCR (power), J1 IO (io), J2 IO (io), J3 IO (io), J4 IO (io), J5 IO (io), J6 PRB/IO (io), J7 IO (io), J8 IO (io), J9 IO (io), J10 IO (io), J11 IO (io), J12 VCCA (power), K1 IO (io), K2 IO (io), K3 IO (io), K4 IO (io), K5 IO (io), K6 IO (io), K7 GND (power), K8 IO (io), K9 IO (io), K10 GND (power), K11 IO (io), K12 IO (io), L1 GND (power), L2 IO (io), L3 IO (io), L4 IO (io), L5 IO (io), L6 IO (io), L7 HCLK (in), L8 IO (io), L9 IO (io), L10 IO (io), L11 IO (io), L12 IO (io), M1 IO (io), M2 IO (io), M3 IO (io), M4 IO (io), M5 IO (io), M6 IO (io), M7 VCCA (power), M8 IO (io), M9 IO (io), M10 IO (io), M11 TDO/IO (io), M12 IO (io)

## A54SX08-3PL84
designator U?
54SX08 FPGA, 69 User IOs, 84-Pin PLCC, Speed Grade 3, Commercial Grade; Note: Unused I/O Pins are automatically tristated by the Designer Series software.; Published: 21-May-2003; LatestRevisionDate: 13-Apr-2006; LatestRevisionNote: IPC-7351 Footprint Added.; DatasheetVersion: ver3.1, Jun-2003; PackageVersion: v9.2, Apr-2006; PackageReference: PL84; Publisher: Altium Limited; PackageDescription: 84-Pin Plastic Leaded Chip Carrier (PL84); Code_JEDEC: MS-018-AF; Code_IPC: PLCC-84; ComponentLink1Description: Manufacturer Link; ComponentLink1URL: http://www.actel.com/products/sxa/index.html; ComponentLink2Description: Datasheet; ComponentLink2URL: http://www.actel.com/documents/A54SXDS.pdf
footprint PL84_N (Leaded Chip Carrier, 84-Leads, Body 29.3x29.3mm, Pitch 1.27mm, IPC Medium Density)
footprint PL84_L (Leaded Chip Carrier, 84-Leads, Body 29.3x29.3mm, Pitch 1.27mm, IPC High Density)
footprint PL84_M (Leaded Chip Carrier, 84-Leads, Body 29.3x29.3mm, Pitch 1.27mm, IPC Low Density)
3D model A54SX08-PL84 (84-Pin Plastic Leaded Chip Carrier (PL84))
pins: 1 VCCR (power), 2 GND (power), 3 VCCA (power), 4 PRA/IO (io), 5 IO (io), 6 IO (io), 7 VCCI (power), 8 IO (io), 9 IO (io), 10 IO (io), 11 TCK/IO (io), 12 TDI/IO (io), 13 IO (io), 14 IO (io), 15 IO (io), 16 TMS (in), 17 IO (io), 18 IO (io), 19 IO (io), 20 IO (io), 21 IO (io), 22 IO (io), 23 IO (io), 24 IO (io), 25 IO (io), 26 IO (io), 27 GND (power), 28 VCCI (power), 29 IO (io), 30 IO (io), 31 IO (io), 32 IO (io), 33 IO (io), 34 IO (io), 35 IO (io), 36 IO (io), 37 IO (io), 38 IO (io), 39 IO (io), 40 PRB/IO (io), 41 VCCA (power), 42 GND (power), 43 VCCR (power), 44 IO (io), 45 HCLK (in), 46 IO (io), 47 IO (io), 48 IO (io), 49 IO (io), 50 IO (io), 51 IO (io), 52 TDO/IO (io), 53 IO (io), 54 IO (io), 55 IO (io), 56 IO (io), 57 IO (io), 58 IO (io), 59 VCCA (power), 60 VCCI (power), 61 GND (power), 62 IO (io), 63 IO (io), 64 IO (io), 65 IO (io), 66 IO (io), 67 IO (io), 68 VCCA (power), 69 GND (power), 70 IO (io), 71 IO (io), 72 IO (io), 73 IO (io), 74 IO (io), 75 IO (io), 76 IO (io), 77 IO (io), 78 IO (io), 79 IO (io), 80 IO (io), 81 IO (io), 82 IO (io), 83 CLKA (in), 84 CLKB (in)

## A54SX08-3PL84I
designator U?
54SX08 FPGA, 69 User IOs, 84-Pin PLCC, Speed Grade 3, Industrial Grade; Note: Unused I/O Pins are automatically tristated by the Designer Series software.; Published: 21-May-2003; LatestRevisionDate: 13-Apr-2006; LatestRevisionNote: IPC-7351 Footprint Added.; DatasheetVersion: ver3.1, Jun-2003; PackageVersion: v9.2, Apr-2006; PackageReference: PL84; Publisher: Altium Limited; PackageDescription: 84-Pin Plastic Leaded Chip Carrier (PL84); Code_JEDEC: MS-018-AF; Code_IPC: PLCC-84; ComponentLink1Description: Manufacturer Link; ComponentLink1URL: http://www.actel.com/products/sxa/index.html; ComponentLink2Description: Datasheet; ComponentLink2URL: http://www.actel.com/documents/A54SXDS.pdf
footprint PL84_N (Leaded Chip Carrier, 84-Leads, Body 29.3x29.3mm, Pitch 1.27mm, IPC Medium Density)
footprint PL84_L (Leaded Chip Carrier, 84-Leads, Body 29.3x29.3mm, Pitch 1.27mm, IPC High Density)
footprint PL84_M (Leaded Chip Carrier, 84-Leads, Body 29.3x29.3mm, Pitch 1.27mm, IPC Low Density)
3D model A54SX08-PL84 (84-Pin Plastic Leaded Chip Carrier (PL84))
pins: 1 VCCR (power), 2 GND (power), 3 VCCA (power), 4 PRA/IO (io), 5 IO (io), 6 IO (io), 7 VCCI (power), 8 IO (io), 9 IO (io), 10 IO (io), 11 TCK/IO (io), 12 TDI/IO (io), 13 IO (io), 14 IO (io), 15 IO (io), 16 TMS (in), 17 IO (io), 18 IO (io), 19 IO (io), 20 IO (io), 21 IO (io), 22 IO (io), 23 IO (io), 24 IO (io), 25 IO (io), 26 IO (io), 27 GND (power), 28 VCCI (power), 29 IO (io), 30 IO (io), 31 IO (io), 32 IO (io), 33 IO (io), 34 IO (io), 35 IO (io), 36 IO (io), 37 IO (io), 38 IO (io), 39 IO (io), 40 PRB/IO (io), 41 VCCA (power), 42 GND (power), 43 VCCR (power), 44 IO (io), 45 HCLK (in), 46 IO (io), 47 IO (io), 48 IO (io), 49 IO (io), 50 IO (io), 51 IO (io), 52 TDO/IO (io), 53 IO (io), 54 IO (io), 55 IO (io), 56 IO (io), 57 IO (io), 58 IO (io), 59 VCCA (power), 60 VCCI (power), 61 GND (power), 62 IO (io), 63 IO (io), 64 IO (io), 65 IO (io), 66 IO (io), 67 IO (io), 68 VCCA (power), 69 GND (power), 70 IO (io), 71 IO (io), 72 IO (io), 73 IO (io), 74 IO (io), 75 IO (io), 76 IO (io), 77 IO (io), 78 IO (io), 79 IO (io), 80 IO (io), 81 IO (io), 82 IO (io), 83 CLKA (in), 84 CLKB (in)

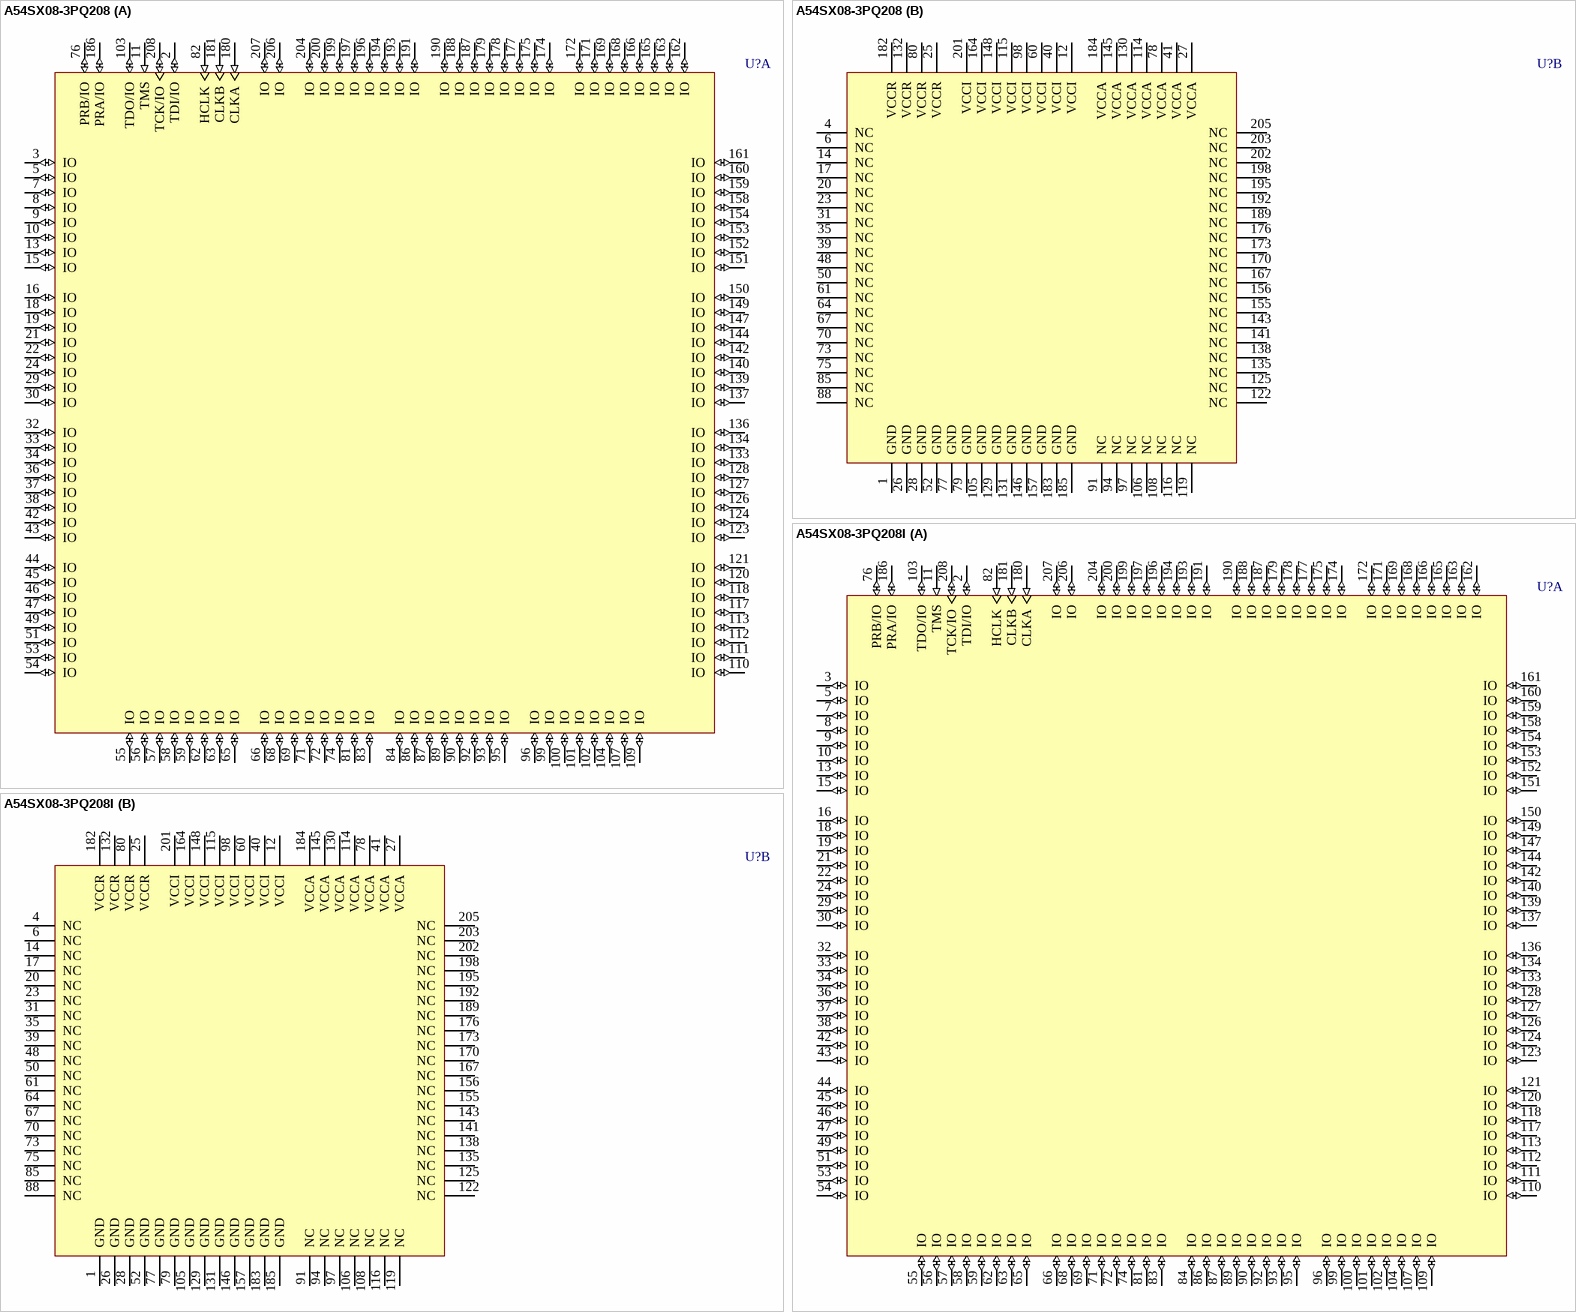
[diagram p12: symbols A54SX08-3PQ208 to A54SX08-3PQ208I]

## A54SX08-3PQ208
designator U?
54SX08 FPGA, 130 User IOs, 208-Pin PQFP, Speed Grade 3, Commercial Grade; Note: Unused I/O Pins are automatically tristated by the Designer Series software.; Published: 21-May-2003; LatestRevisionDate: 13-Apr-2006; LatestRevisionNote: IPC-7351 Footprint Added.; DatasheetVersion: ver3.1, Jun-2003; PackageVersion: v9.2, Apr-2006; PackageReference: PQ208; Publisher: Altium Limited; PackageDescription: 208-Pin Plastic Quad Flat Pack (PQ208); Code_JEDEC: MS-029-FA-1; ComponentLink1Description: Manufacturer Link; ComponentLink1URL: http://www.actel.com/products/sxa/index.html; ComponentLink2Description: Datasheet; ComponentLink2URL: http://www.actel.com/documents/A54SXDS.pdf
footprint PQ208_N (Shrink QFP, 208-Leads, Body 28x28mm, Pitch 0.5mm, IPC Medium Density)
footprint PQ208_L (Shrink QFP, 208-Leads, Body 28x28mm, Pitch 0.5mm, IPC High Density)
footprint PQ208_M (Shrink QFP, 208-Leads, Body 28x28mm, Pitch 0.5mm, IPC Low Density)
3D model A54SX08-PQ208 (208-Pin Plastic Quad Flat Pack (PQ208))
part A pins: 2 TDI/IO (io), 3 IO (io), 5 IO (io), 7 IO (io), 8 IO (io), 9 IO (io), 10 IO (io), 11 TMS (in), 13 IO (io), 15 IO (io), 16 IO (io), 18 IO (io), 19 IO (io), 21 IO (io), 22 IO (io), 24 IO (io), 29 IO (io), 30 IO (io), 32 IO (io), 33 IO (io), 34 IO (io), 36 IO (io), 37 IO (io), 38 IO (io), 42 IO (io), 43 IO (io), 44 IO (io), 45 IO (io), 46 IO (io), 47 IO (io), 49 IO (io), 51 IO (io), 53 IO (io), 54 IO (io), 55 IO (io), 56 IO (io), 57 IO (io), 58 IO (io), 59 IO (io), 62 IO (io), 63 IO (io), 65 IO (io), 66 IO (io), 68 IO (io), 69 IO (io), 71 IO (io), 72 IO (io), 74 IO (io), 76 PRB/IO (io), 81 IO (io), 82 HCLK (in), 83 IO (io), 84 IO (io), 86 IO (io), 87 IO (io), 89 IO (io), 90 IO (io), 92 IO (io), 93 IO (io), 95 IO (io), 96 IO (io), 99 IO (io), 100 IO (io), 101 IO (io), 102 IO (io), 103 TDO/IO (io), 104 IO (io), 107 IO (io), 109 IO (io), 110 IO (io), 111 IO (io), 112 IO (io), 113 IO (io), 117 IO (io), 118 IO (io), 120 IO (io), 121 IO (io), 123 IO (io), 124 IO (io), 126 IO (io), 127 IO (io), 128 IO (io), 133 IO (io), 134 IO (io), 136 IO (io), 137 IO (io), 139 IO (io), 140 IO (io), 142 IO (io), 144 IO (io), 147 IO (io), 149 IO (io), 150 IO (io), 151 IO (io), 152 IO (io), 153 IO (io), 154 IO (io), 158 IO (io), 159 IO (io), 160 IO (io), 161 IO (io), 162 IO (io), 163 IO (io), 165 IO (io), 166 IO (io), 168 IO (io), 169 IO (io), 171 IO (io), 172 IO (io), 174 IO (io), 175 IO (io), 177 IO (io), 178 IO (io), 179 IO (io), 180 CLKA (in), 181 CLKB (in), 186 PRA/IO (io), 187 IO (io), 188 IO (io), 190 IO (io), 191 IO (io), 193 IO (io), 194 IO (io), 196 IO (io), 197 IO (io), 199 IO (io), 200 IO (io), 204 IO (io), 206 IO (io), 207 IO (io), 208 TCK/IO (io)
part B pins: 1 GND (power), 4 NC, 6 NC, 12 VCCI (power), 14 NC, 17 NC, 20 NC, 23 NC, 25 VCCR (power), 26 GND (power), 27 VCCA (power), 28 GND (power), 31 NC, 35 NC, 39 NC, 40 VCCI (power), 41 VCCA (power), 48 NC, 50 NC, 52 GND (power), 60 VCCI (power), 61 NC, 64 NC, 67 NC, 70 NC, 73 NC, 75 NC, 77 GND (power), 78 VCCA (power), 79 GND (power), 80 VCCR (power), 85 NC, 88 NC, 91 NC, 94 NC, 97 NC, 98 VCCI (power), 105 GND (power), 106 NC, 108 NC, 114 VCCA (power), 115 VCCI (power), 116 NC, 119 NC, 122 NC, 125 NC, 129 GND (power), 130 VCCA (power), 131 GND (power), 132 VCCR (power), 135 NC, 138 NC, 141 NC, 143 NC, 145 VCCA (power), 146 GND (power), 148 VCCI (power), 155 NC, 156 NC, 157 GND (power), 164 VCCI (power), 167 NC, 170 NC, 173 NC, 176 NC, 182 VCCR (power), 183 GND (power), 184 VCCA (power), 185 GND (power), 189 NC, 192 NC, 195 NC, 198 NC, 201 VCCI (power), 202 NC, 203 NC, 205 NC

## A54SX08-3PQ208I
designator U?
54SX08 FPGA, 130 User IOs, 208-Pin PQFP, Speed Grade 3, Industrial Grade; Note: Unused I/O Pins are automatically tristated by the Designer Series software.; Published: 21-May-2003; LatestRevisionDate: 13-Apr-2006; LatestRevisionNote: IPC-7351 Footprint Added.; DatasheetVersion: ver3.1, Jun-2003; PackageVersion: v9.2, Apr-2006; PackageReference: PQ208; Publisher: Altium Limited; PackageDescription: 208-Pin Plastic Quad Flat Pack (PQ208); Code_JEDEC: MS-029-FA-1; ComponentLink1Description: Manufacturer Link; ComponentLink1URL: http://www.actel.com/products/sxa/index.html; ComponentLink2Description: Datasheet; ComponentLink2URL: http://www.actel.com/documents/A54SXDS.pdf
footprint PQ208_N (Shrink QFP, 208-Leads, Body 28x28mm, Pitch 0.5mm, IPC Medium Density)
footprint PQ208_L (Shrink QFP, 208-Leads, Body 28x28mm, Pitch 0.5mm, IPC High Density)
footprint PQ208_M (Shrink QFP, 208-Leads, Body 28x28mm, Pitch 0.5mm, IPC Low Density)
3D model A54SX08-PQ208 (208-Pin Plastic Quad Flat Pack (PQ208))
part A pins: 2 TDI/IO (io), 3 IO (io), 5 IO (io), 7 IO (io), 8 IO (io), 9 IO (io), 10 IO (io), 11 TMS (in), 13 IO (io), 15 IO (io), 16 IO (io), 18 IO (io), 19 IO (io), 21 IO (io), 22 IO (io), 24 IO (io), 29 IO (io), 30 IO (io), 32 IO (io), 33 IO (io), 34 IO (io), 36 IO (io), 37 IO (io), 38 IO (io), 42 IO (io), 43 IO (io), 44 IO (io), 45 IO (io), 46 IO (io), 47 IO (io), 49 IO (io), 51 IO (io), 53 IO (io), 54 IO (io), 55 IO (io), 56 IO (io), 57 IO (io), 58 IO (io), 59 IO (io), 62 IO (io), 63 IO (io), 65 IO (io), 66 IO (io), 68 IO (io), 69 IO (io), 71 IO (io), 72 IO (io), 74 IO (io), 76 PRB/IO (io), 81 IO (io), 82 HCLK (in), 83 IO (io), 84 IO (io), 86 IO (io), 87 IO (io), 89 IO (io), 90 IO (io), 92 IO (io), 93 IO (io), 95 IO (io), 96 IO (io), 99 IO (io), 100 IO (io), 101 IO (io), 102 IO (io), 103 TDO/IO (io), 104 IO (io), 107 IO (io), 109 IO (io), 110 IO (io), 111 IO (io), 112 IO (io), 113 IO (io), 117 IO (io), 118 IO (io), 120 IO (io), 121 IO (io), 123 IO (io), 124 IO (io), 126 IO (io), 127 IO (io), 128 IO (io), 133 IO (io), 134 IO (io), 136 IO (io), 137 IO (io), 139 IO (io), 140 IO (io), 142 IO (io), 144 IO (io), 147 IO (io), 149 IO (io), 150 IO (io), 151 IO (io), 152 IO (io), 153 IO (io), 154 IO (io), 158 IO (io), 159 IO (io), 160 IO (io), 161 IO (io), 162 IO (io), 163 IO (io), 165 IO (io), 166 IO (io), 168 IO (io), 169 IO (io), 171 IO (io), 172 IO (io), 174 IO (io), 175 IO (io), 177 IO (io), 178 IO (io), 179 IO (io), 180 CLKA (in), 181 CLKB (in), 186 PRA/IO (io), 187 IO (io), 188 IO (io), 190 IO (io), 191 IO (io), 193 IO (io), 194 IO (io), 196 IO (io), 197 IO (io), 199 IO (io), 200 IO (io), 204 IO (io), 206 IO (io), 207 IO (io), 208 TCK/IO (io)
part B pins: 1 GND (power), 4 NC, 6 NC, 12 VCCI (power), 14 NC, 17 NC, 20 NC, 23 NC, 25 VCCR (power), 26 GND (power), 27 VCCA (power), 28 GND (power), 31 NC, 35 NC, 39 NC, 40 VCCI (power), 41 VCCA (power), 48 NC, 50 NC, 52 GND (power), 60 VCCI (power), 61 NC, 64 NC, 67 NC, 70 NC, 73 NC, 75 NC, 77 GND (power), 78 VCCA (power), 79 GND (power), 80 VCCR (power), 85 NC, 88 NC, 91 NC, 94 NC, 97 NC, 98 VCCI (power), 105 GND (power), 106 NC, 108 NC, 114 VCCA (power), 115 VCCI (power), 116 NC, 119 NC, 122 NC, 125 NC, 129 GND (power), 130 VCCA (power), 131 GND (power), 132 VCCR (power), 135 NC, 138 NC, 141 NC, 143 NC, 145 VCCA (power), 146 GND (power), 148 VCCI (power), 155 NC, 156 NC, 157 GND (power), 164 VCCI (power), 167 NC, 170 NC, 173 NC, 176 NC, 182 VCCR (power), 183 GND (power), 184 VCCA (power), 185 GND (power), 189 NC, 192 NC, 195 NC, 198 NC, 201 VCCI (power), 202 NC, 203 NC, 205 NC

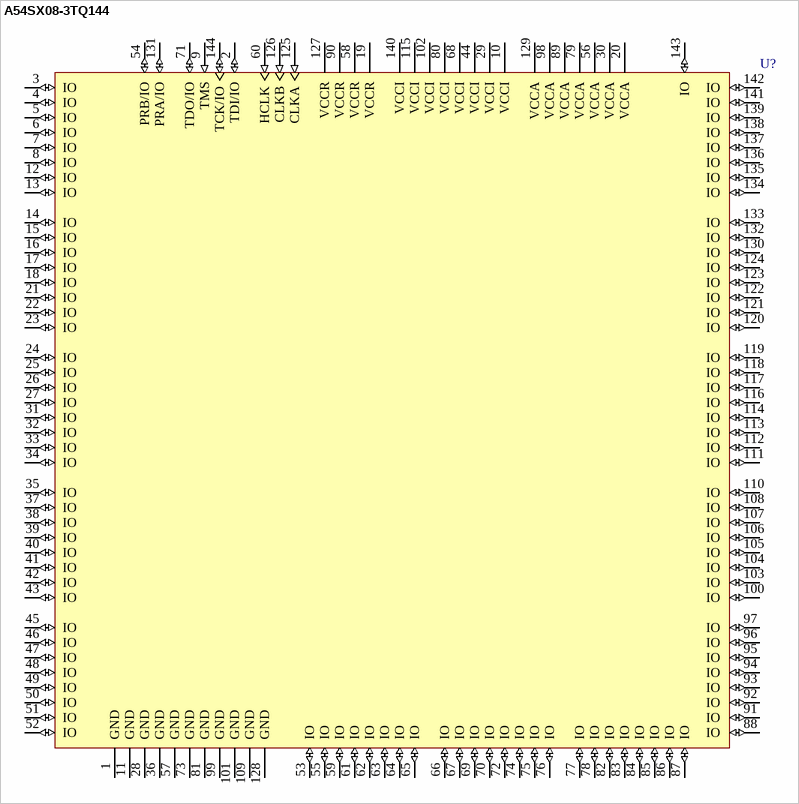
[diagram p13: symbol A54SX08-3TQ144]

## A54SX08-3TQ144
designator U?
54SX08 FPGA, 113 User IOs, 144-Pin TQFP, Speed Grade 3, Commercial Grade; Note: Unused I/O Pins are automatically tristated by the Designer Series software.; Published: 21-May-2003; LatestRevisionDate: 13-Apr-2006; LatestRevisionNote: IPC-7351 Footprint Added.; DatasheetVersion: ver3.1, Jun-2003; PackageVersion: v9.2, Apr-2006; PackageReference: TQ144; Publisher: Altium Limited; PackageDescription: 144-Pin Plastic Quad Flat Pack (TQ144); Code_JEDEC: MS-026-BFB; ComponentLink1Description: Manufacturer Link; ComponentLink1URL: http://www.actel.com/products/sxa/index.html; ComponentLink2Description: Datasheet; ComponentLink2URL: http://www.actel.com/documents/A54SXDS.pdf
footprint TQ144_N (Thin QFP, 144-Leads, Body 20x20mm, Pitch 0.5mm, IPC Medium Density)
footprint TQ144_L (Thin QFP, 144-Leads, Body 20x20mm, Pitch 0.5mm, IPC High Density)
footprint TQ144_M (Thin QFP, 144-Leads, Body 20x20mm, Pitch 0.5mm, IPC Low Density)
3D model A54SX08-TQ144 (144-Pin Plastic Quad Flat Pack (TQ144))
pins: 1 GND (power), 2 TDI/IO (io), 3 IO (io), 4 IO (io), 5 IO (io), 6 IO (io), 7 IO (io), 8 IO (io), 9 TMS (in), 10 VCCI (power), 11 GND (power), 12 IO (io), 13 IO (io), 14 IO (io), 15 IO (io), 16 IO (io), 17 IO (io), 18 IO (io), 19 VCCR (power), 20 VCCA (power), 21 IO (io), 22 IO (io), 23 IO (io), 24 IO (io), 25 IO (io), 26 IO (io), 27 IO (io), 28 GND (power), 29 VCCI (power), 30 VCCA (power), 31 IO (io), 32 IO (io), 33 IO (io), 34 IO (io), 35 IO (io), 36 GND (power), 37 IO (io), 38 IO (io), 39 IO (io), 40 IO (io), 41 IO (io), 42 IO (io), 43 IO (io), 44 VCCI (power), 45 IO (io), 46 IO (io), 47 IO (io), 48 IO (io), 49 IO (io), 50 IO (io), 51 IO (io), 52 IO (io), 53 IO (io), 54 PRB/IO (io), 55 IO (io), 56 VCCA (power), 57 GND (power), 58 VCCR (power), 59 IO (io), 60 HCLK (in), 61 IO (io), 62 IO (io), 63 IO (io), 64 IO (io), 65 IO (io), 66 IO (io), 67 IO (io), 68 VCCI (power), 69 IO (io), 70 IO (io), 71 TDO/IO (io), 72 IO (io), 73 GND (power), 74 IO (io), 75 IO (io), 76 IO (io), 77 IO (io), 78 IO (io), 79 VCCA (power), 80 VCCI (power), 81 GND (power), 82 IO (io), 83 IO (io), 84 IO (io), 85 IO (io), 86 IO (io), 87 IO (io), 88 IO (io), 89 VCCA (power), 90 VCCR (power), 91 IO (io), 92 IO (io), 93 IO (io), 94 IO (io), 95 IO (io), 96 IO (io), 97 IO (io), 98 VCCA (power), 99 GND (power), 100 IO (io), 101 GND (power), 102 VCCI (power), 103 IO (io), 104 IO (io), 105 IO (io), 106 IO (io), 107 IO (io), 108 IO (io), 109 GND (power), 110 IO (io), 111 IO (io), 112 IO (io), 113 IO (io), 114 IO (io), 115 VCCI (power), 116 IO (io), 117 IO (io), 118 IO (io), 119 IO (io), 120 IO (io), 121 IO (io), 122 IO (io), 123 IO (io), 124 IO (io), 125 CLKA (in), 126 CLKB (in), 127 VCCR (power), 128 GND (power), 129 VCCA (power), 130 IO (io), 131 PRA/IO (io), 132 IO (io), 133 IO (io), 134 IO (io), 135 IO (io), 136 IO (io), 137 IO (io), 138 IO (io), 139 IO (io), 140 VCCI (power), 141 IO (io), 142 IO (io), 143 IO (io), 144 TCK/IO (io)

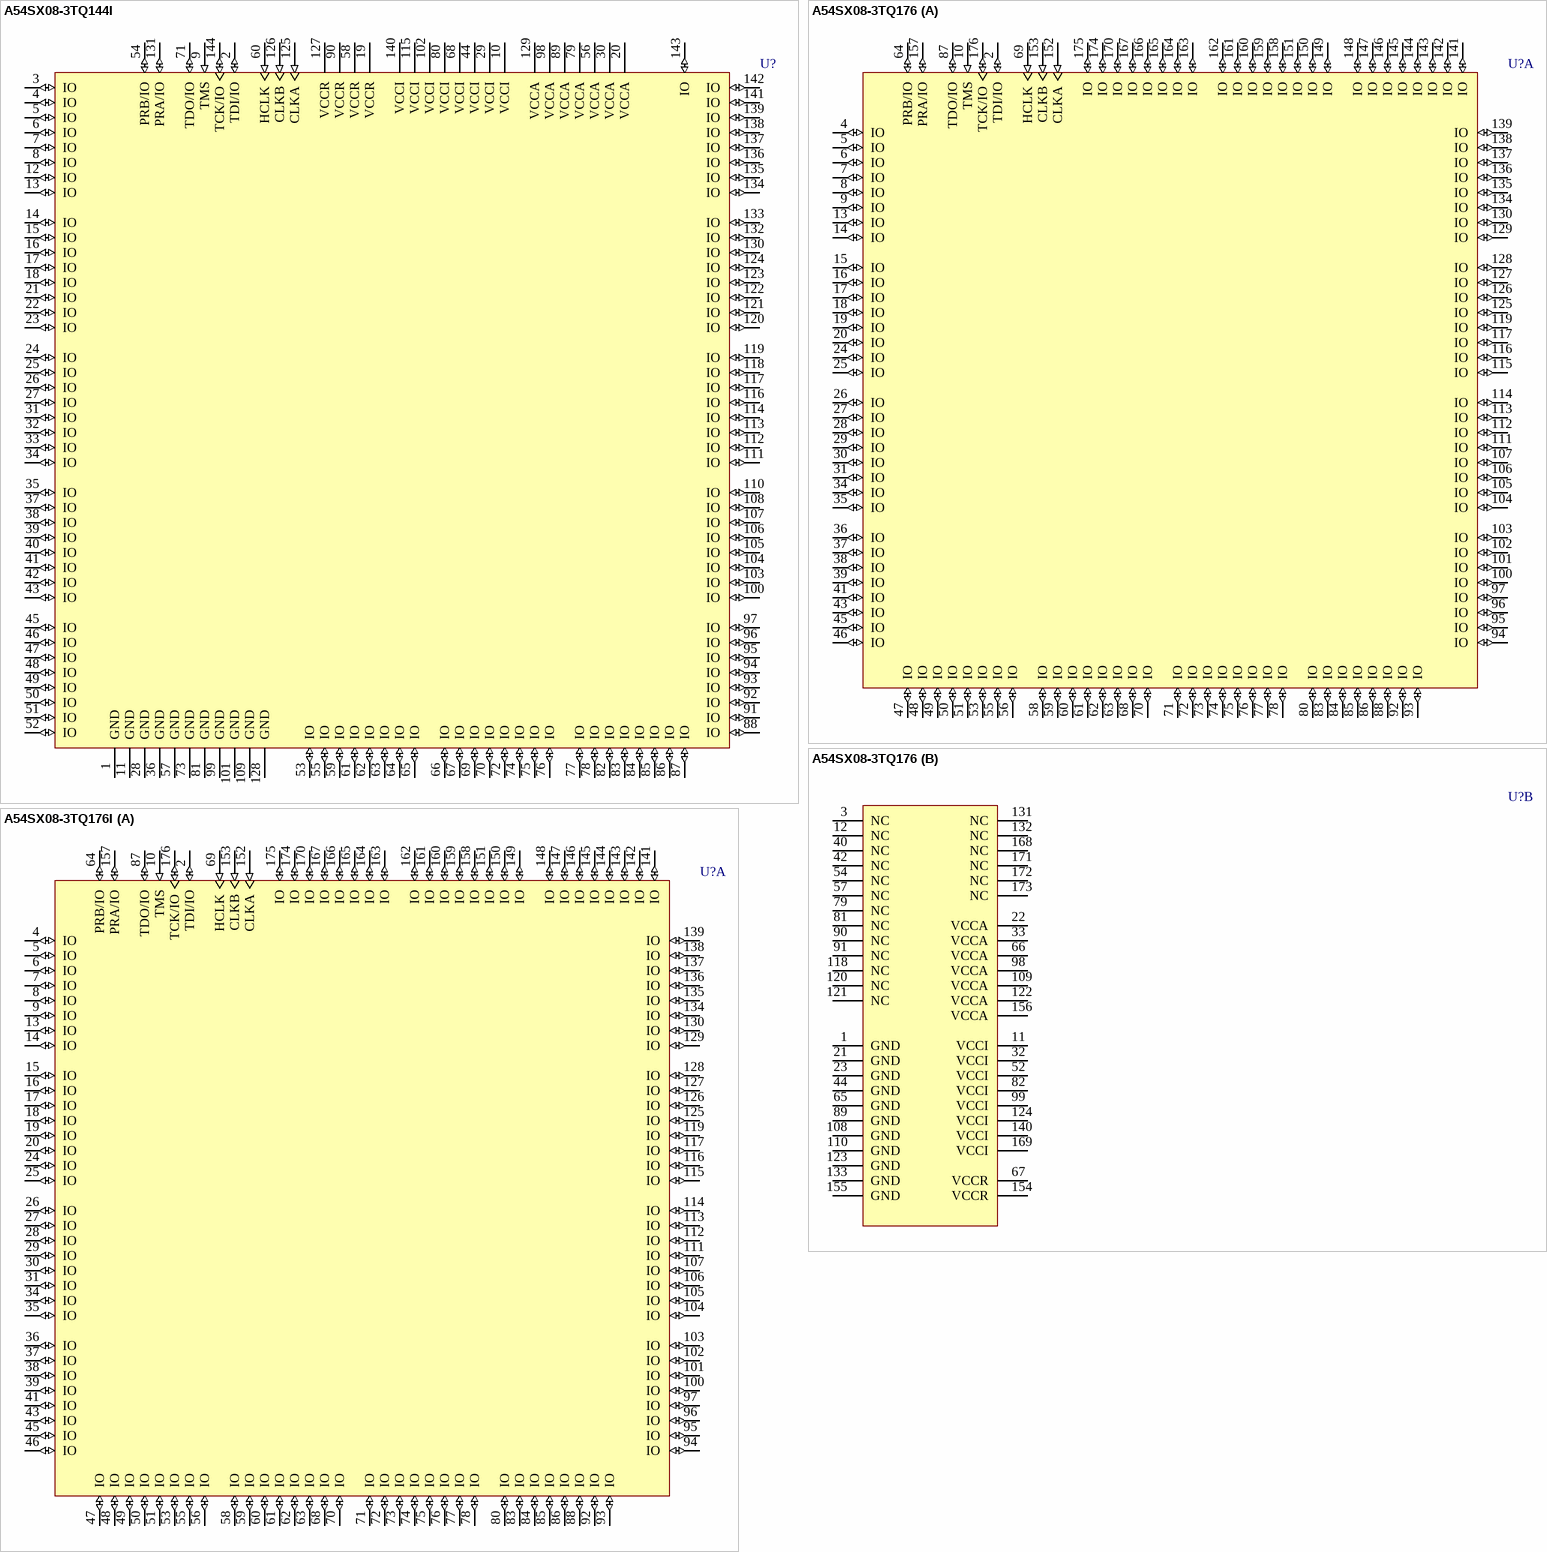
[diagram p14: symbols A54SX08-3TQ144I to A54SX08-3TQ176I]

## A54SX08-3TQ144I
designator U?
54SX08 FPGA, 113 User IOs, 144-Pin TQFP, Speed Grade 3, Industrial Grade; Note: Unused I/O Pins are automatically tristated by the Designer Series software.; Published: 21-May-2003; LatestRevisionDate: 13-Apr-2006; LatestRevisionNote: IPC-7351 Footprint Added.; DatasheetVersion: ver3.1, Jun-2003; PackageVersion: v9.2, Apr-2006; PackageReference: TQ144; Publisher: Altium Limited; PackageDescription: 144-Pin Plastic Quad Flat Pack (TQ144); Code_JEDEC: MS-026-BFB; ComponentLink1Description: Manufacturer Link; ComponentLink1URL: http://www.actel.com/products/sxa/index.html; ComponentLink2Description: Datasheet; ComponentLink2URL: http://www.actel.com/documents/A54SXDS.pdf
footprint TQ144_N (Thin QFP, 144-Leads, Body 20x20mm, Pitch 0.5mm, IPC Medium Density)
footprint TQ144_L (Thin QFP, 144-Leads, Body 20x20mm, Pitch 0.5mm, IPC High Density)
footprint TQ144_M (Thin QFP, 144-Leads, Body 20x20mm, Pitch 0.5mm, IPC Low Density)
3D model A54SX08-TQ144 (144-Pin Plastic Quad Flat Pack (TQ144))
pins: 1 GND (power), 2 TDI/IO (io), 3 IO (io), 4 IO (io), 5 IO (io), 6 IO (io), 7 IO (io), 8 IO (io), 9 TMS (in), 10 VCCI (power), 11 GND (power), 12 IO (io), 13 IO (io), 14 IO (io), 15 IO (io), 16 IO (io), 17 IO (io), 18 IO (io), 19 VCCR (power), 20 VCCA (power), 21 IO (io), 22 IO (io), 23 IO (io), 24 IO (io), 25 IO (io), 26 IO (io), 27 IO (io), 28 GND (power), 29 VCCI (power), 30 VCCA (power), 31 IO (io), 32 IO (io), 33 IO (io), 34 IO (io), 35 IO (io), 36 GND (power), 37 IO (io), 38 IO (io), 39 IO (io), 40 IO (io), 41 IO (io), 42 IO (io), 43 IO (io), 44 VCCI (power), 45 IO (io), 46 IO (io), 47 IO (io), 48 IO (io), 49 IO (io), 50 IO (io), 51 IO (io), 52 IO (io), 53 IO (io), 54 PRB/IO (io), 55 IO (io), 56 VCCA (power), 57 GND (power), 58 VCCR (power), 59 IO (io), 60 HCLK (in), 61 IO (io), 62 IO (io), 63 IO (io), 64 IO (io), 65 IO (io), 66 IO (io), 67 IO (io), 68 VCCI (power), 69 IO (io), 70 IO (io), 71 TDO/IO (io), 72 IO (io), 73 GND (power), 74 IO (io), 75 IO (io), 76 IO (io), 77 IO (io), 78 IO (io), 79 VCCA (power), 80 VCCI (power), 81 GND (power), 82 IO (io), 83 IO (io), 84 IO (io), 85 IO (io), 86 IO (io), 87 IO (io), 88 IO (io), 89 VCCA (power), 90 VCCR (power), 91 IO (io), 92 IO (io), 93 IO (io), 94 IO (io), 95 IO (io), 96 IO (io), 97 IO (io), 98 VCCA (power), 99 GND (power), 100 IO (io), 101 GND (power), 102 VCCI (power), 103 IO (io), 104 IO (io), 105 IO (io), 106 IO (io), 107 IO (io), 108 IO (io), 109 GND (power), 110 IO (io), 111 IO (io), 112 IO (io), 113 IO (io), 114 IO (io), 115 VCCI (power), 116 IO (io), 117 IO (io), 118 IO (io), 119 IO (io), 120 IO (io), 121 IO (io), 122 IO (io), 123 IO (io), 124 IO (io), 125 CLKA (in), 126 CLKB (in), 127 VCCR (power), 128 GND (power), 129 VCCA (power), 130 IO (io), 131 PRA/IO (io), 132 IO (io), 133 IO (io), 134 IO (io), 135 IO (io), 136 IO (io), 137 IO (io), 138 IO (io), 139 IO (io), 140 VCCI (power), 141 IO (io), 142 IO (io), 143 IO (io), 144 TCK/IO (io)

## A54SX08-3TQ176
designator U?
54SX08 FPGA, 128 User IOs, 176-Pin TQFP, Speed Grade 3, Commercial Grade; Note: Unused I/O Pins are automatically tristated by the Designer Series software.; Published: 21-May-2003; LatestRevisionDate: 13-Apr-2006; LatestRevisionNote: IPC-7351 Footprint Added.; DatasheetVersion: ver3.1, Jun-2003; PackageVersion: v9.2, Apr-2006; PackageReference: TQ176; Publisher: Altium Limited; PackageDescription: 176-Pin Plastic Quad Flat Pack (TQ176); Code_JEDEC: MS-026-BCA; ComponentLink1Description: Manufacturer Link; ComponentLink1URL: http://www.actel.com/products/sxa/index.html; ComponentLink2Description: Datasheet; ComponentLink2URL: http://www.actel.com/documents/A54SXDS.pdf
footprint TQ176_N (Thin QFP, 176-Leads, Body 24x24mm, Pitch 0.5mm, IPC Medium Density)
footprint TQ176_L (Thin QFP, 176-Leads, Body 24x24mm, Pitch 0.5mm, IPC High Density)
footprint TQ176_M (Thin QFP, 176-Leads, Body 24x24mm, Pitch 0.5mm, IPC Low Density)
3D model A54SX08-TQ176 (176-Pin Plastic Quad Flat Pack (TQ176))
part A pins: 2 TDI/IO (io), 4 IO (io), 5 IO (io), 6 IO (io), 7 IO (io), 8 IO (io), 9 IO (io), 10 TMS (in), 13 IO (io), 14 IO (io), 15 IO (io), 16 IO (io), 17 IO (io), 18 IO (io), 19 IO (io), 20 IO (io), 24 IO (io), 25 IO (io), 26 IO (io), 27 IO (io), 28 IO (io), 29 IO (io), 30 IO (io), 31 IO (io), 34 IO (io), 35 IO (io), 36 IO (io), 37 IO (io), 38 IO (io), 39 IO (io), 41 IO (io), 43 IO (io), 45 IO (io), 46 IO (io), 47 IO (io), 48 IO (io), 49 IO (io), 50 IO (io), 51 IO (io), 53 IO (io), 55 IO (io), 56 IO (io), 58 IO (io), 59 IO (io), 60 IO (io), 61 IO (io), 62 IO (io), 63 IO (io), 64 PRB/IO (io), 68 IO (io), 69 HCLK (in), 70 IO (io), 71 IO (io), 72 IO (io), 73 IO (io), 74 IO (io), 75 IO (io), 76 IO (io), 77 IO (io), 78 IO (io), 80 IO (io), 83 IO (io), 84 IO (io), 85 IO (io), 86 IO (io), 87 TDO/IO (io), 88 IO (io), 92 IO (io), 93 IO (io), 94 IO (io), 95 IO (io), 96 IO (io), 97 IO (io), 100 IO (io), 101 IO (io), 102 IO (io), 103 IO (io), 104 IO (io), 105 IO (io), 106 IO (io), 107 IO (io), 111 IO (io), 112 IO (io), 113 IO (io), 114 IO (io), 115 IO (io), 116 IO (io), 117 IO (io), 119 IO (io), 125 IO (io), 126 IO (io), 127 IO (io), 128 IO (io), 129 IO (io), 130 IO (io), 134 IO (io), 135 IO (io), 136 IO (io), 137 IO (io), 138 IO (io), 139 IO (io), 141 IO (io), 142 IO (io), 143 IO (io), 144 IO (io), 145 IO (io), 146 IO (io), 147 IO (io), 148 IO (io), 149 IO (io), 150 IO (io), 151 IO (io), 152 CLKA (in), 153 CLKB (in), 157 PRA/IO (io), 158 IO (io), 159 IO (io), 160 IO (io), 161 IO (io), 162 IO (io), 163 IO (io), 164 IO (io), 165 IO (io), 166 IO (io), 167 IO (io), 170 IO (io), 174 IO (io), 175 IO (io), 176 TCK/IO (io)
part B pins: 1 GND (power), 3 NC, 11 VCCI (power), 12 NC, 21 GND (power), 22 VCCA (power), 23 GND (power), 32 VCCI (power), 33 VCCA (power), 40 NC, 42 NC, 44 GND (power), 52 VCCI (power), 54 NC, 57 NC, 65 GND (power), 66 VCCA (power), 67 VCCR (power), 79 NC, 81 NC, 82 VCCI (power), 89 GND (power), 90 NC, 91 NC, 98 VCCA (power), 99 VCCI (power), 108 GND (power), 109 VCCA (power), 110 GND (power), 118 NC, 120 NC, 121 NC, 122 VCCA (power), 123 GND (power), 124 VCCI (power), 131 NC, 132 NC, 133 GND (power), 140 VCCI (power), 154 VCCR (power), 155 GND (power), 156 VCCA (power), 168 NC, 169 VCCI (power), 171 NC, 172 NC, 173 NC

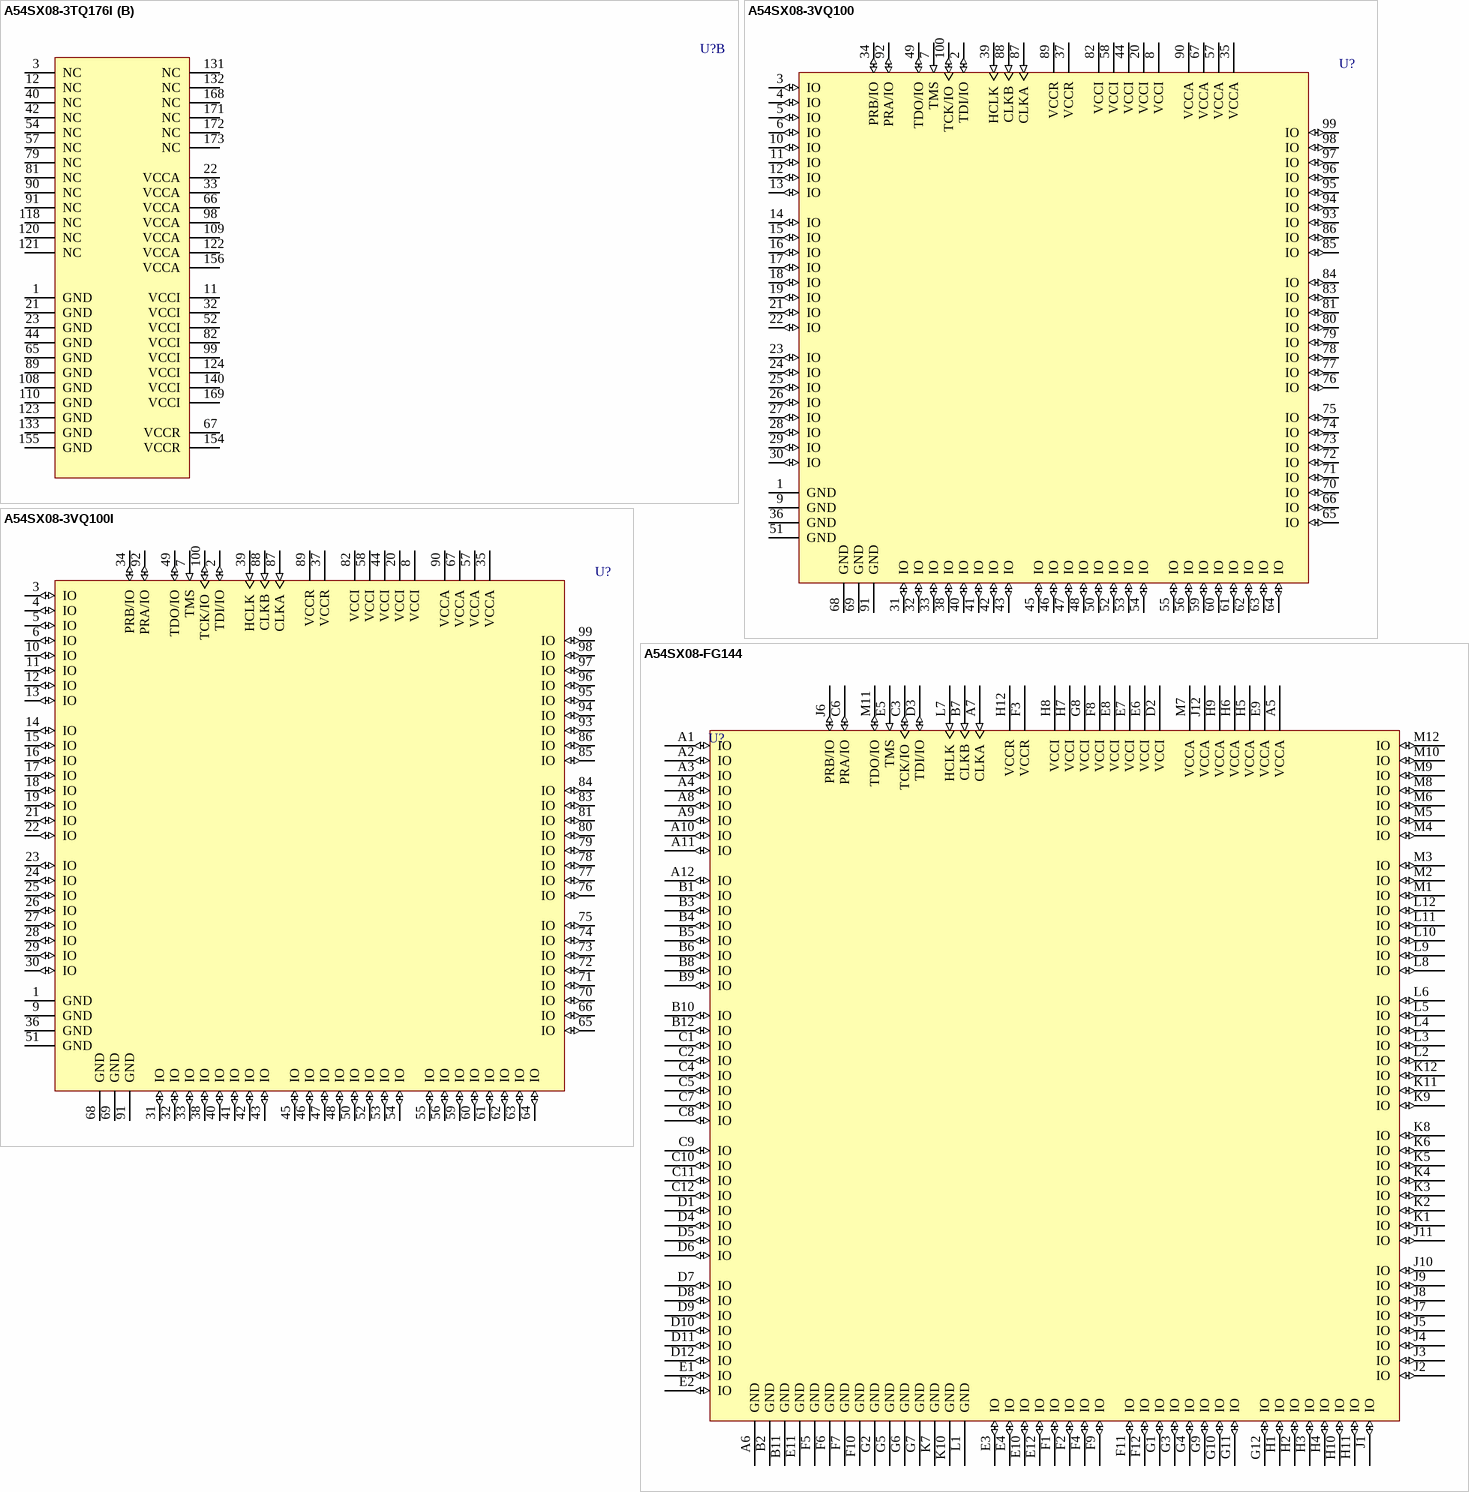
[diagram p15: symbols A54SX08-3TQ176I to A54SX08-FG144]